# Altium schematic symbol library FPGA_Xilinx_Spartan6.SchLib: 45 symbols (part 5 of 8)
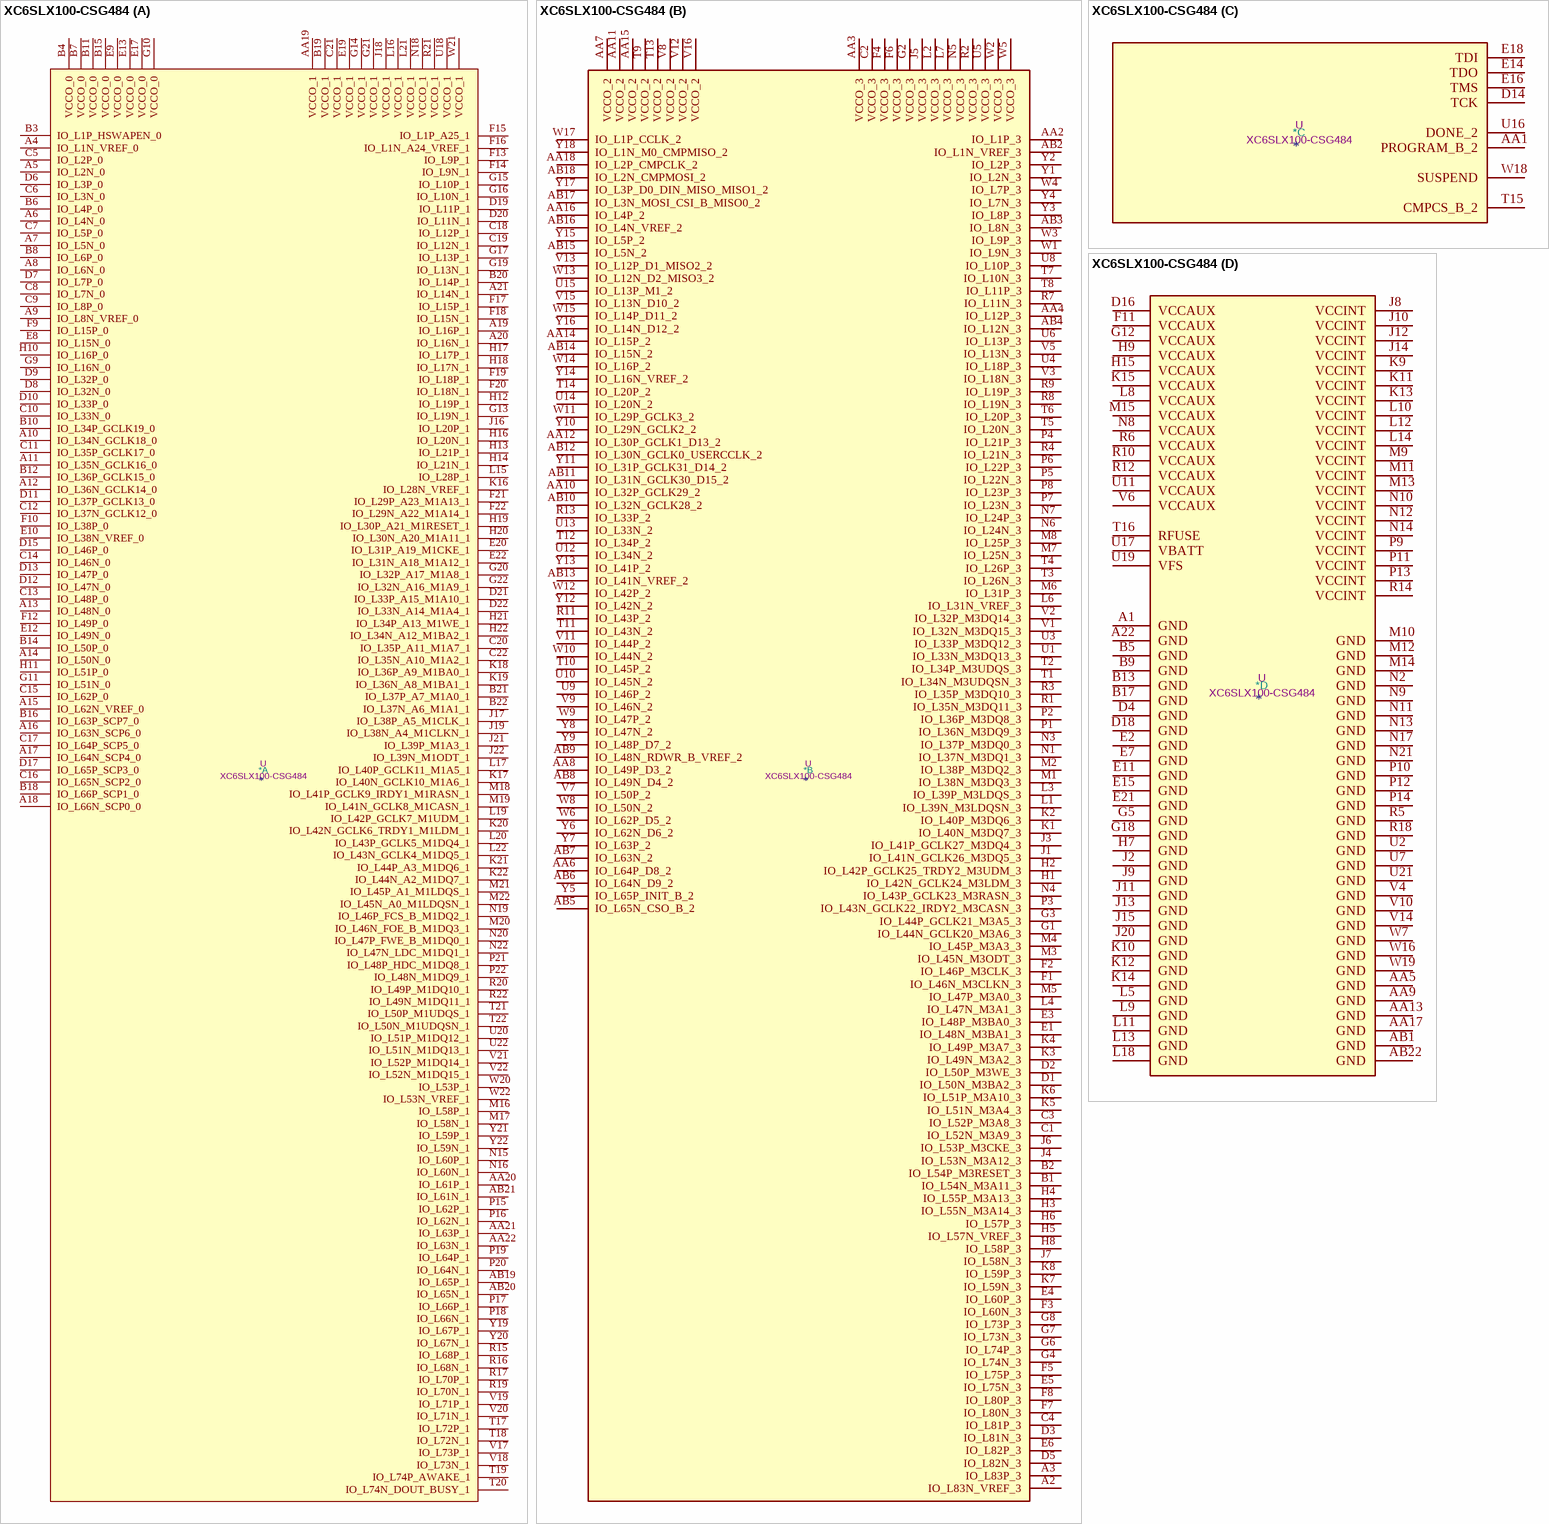
[diagram p66: symbol XC6SLX100-CSG484]

## XC6SLX100-CSG484
designator *  value XC6SLX100-CSG484  Reference: U
ki_keywords: FPGA; ki_description: Spartan 6 LX 100 XC6SLX100-CSG484
part A pins: A4 IO_L1N_VREF_0, A5 IO_L2N_0, A6 IO_L4N_0, A7 IO_L5N_0, A8 IO_L6N_0, A9 IO_L8N_VREF_0, A10 IO_L34N_GCLK18_0, A11 IO_L35N_GCLK16_0, A12 IO_L36N_GCLK14_0, A13 IO_L48N_0, A14 IO_L50N_0, A15 IO_L62N_VREF_0, A16 IO_L63N_SCP6_0, A17 IO_L64N_SCP4_0, A18 IO_L66N_SCP0_0, A19 IO_L16P_1, A20 IO_L16N_1, A21 IO_L14N_1, AA19 VCCO_1, AA20 IO_L61P_1, AA21 IO_L63P_1, AA22 IO_L63N_1, AB19 IO_L65P_1, AB20 IO_L65N_1, AB21 IO_L61N_1, B3 IO_L1P_HSWAPEN_0, B4 VCCO_0, B6 IO_L4P_0, B7 VCCO_0, B8 IO_L6P_0, B10 IO_L34P_GCLK19_0, B11 VCCO_0, B12 IO_L36P_GCLK15_0, B14 IO_L50P_0, B15 VCCO_0, B16 IO_L63P_SCP7_0, B18 IO_L66P_SCP1_0, B19 VCCO_1, B20 IO_L14P_1, B21 IO_L37P_A7_M1A0_1, B22 IO_L37N_A6_M1A1_1, C5 IO_L2P_0, C6 IO_L3N_0, C7 IO_L5P_0, C8 IO_L7N_0, C9 IO_L8P_0, C10 IO_L33N_0, C11 IO_L35P_GCLK17_0, C12 IO_L37N_GCLK12_0, C13 IO_L48P_0, C14 IO_L46N_0, C15 IO_L62P_0, C16 IO_L65N_SCP2_0, C17 IO_L64P_SCP5_0, C18 IO_L12P_1, C19 IO_L12N_1, C20 IO_L35P_A11_M1A7_1, C21 VCCO_1, C22 IO_L35N_A10_M1A2_1, D6 IO_L3P_0, D7 IO_L7P_0, D8 IO_L32N_0, D9 IO_L32P_0, D10 IO_L33P_0, D11 IO_L37P_GCLK13_0, D12 IO_L47N_0, D13 IO_L47P_0, D15 IO_L46P_0, D17 IO_L65P_SCP3_0, D19 IO_L11P_1, D20 IO_L11N_1, D21 IO_L33P_A15_M1A10_1, D22 IO_L33N_A14_M1A4_1, E8 IO_L15N_0, E9 VCCO_0, E10 IO_L38N_VREF_0, E12 IO_L49N_0, E13 VCCO_0, E17 VCCO_0, E19 VCCO_1, E20 IO_L31P_A19_M1CKE_1, E22 IO_L31N_A18_M1A12_1, F9 IO_L15P_0, F10 IO_L38P_0, F12 IO_L49P_0, F13 IO_L9P_1, F14 IO_L9N_1, F15 IO_L1P_A25_1, F16 IO_L1N_A24_VREF_1, F17 IO_L15P_1, F18 IO_L15N_1, F19 IO_L18P_1, F20 IO_L18N_1, F21 IO_L29P_A23_M1A13_1, F22 IO_L29N_A22_M1A14_1, G9 IO_L16N_0, G10 VCCO_0, G11 IO_L51N_0, G13 IO_L19N_1, G14 VCCO_1, G15 IO_L10P_1, G16 IO_L10N_1, G17 IO_L13P_1, G19 IO_L13N_1, G20 IO_L32P_A17_M1A8_1, G21 VCCO_1, G22 IO_L32N_A16_M1A9_1, H10 IO_L16P_0, H11 IO_L51P_0, H12 IO_L19P_1, H13 IO_L21P_1, H14 IO_L21N_1, H16 IO_L20N_1, H17 IO_L17P_1, H18 IO_L17N_1, H19 IO_L30P_A21_M1RESET_1, H20 IO_L30N_A20_M1A11_1, H21 IO_L34P_A13_M1WE_1, H22 IO_L34N_A12_M1BA2_1, J16 IO_L20P_1, J17 IO_L38P_A5_M1CLK_1, J18 VCCO_1, J19 IO_L38N_A4_M1CLKN_1, J21 IO_L39P_M1A3_1, J22 IO_L39N_M1ODT_1, K16 IO_L28N_VREF_1, K17 IO_L40N_GCLK10_M1A6_1, K18 IO_L36P_A9_M1BA0_1, K19 IO_L36N_A8_M1BA1_1, K20 IO_L42N_GCLK6_TRDY1_M1LDM_1, K21 IO_L44P_A3_M1DQ6_1, K22 IO_L44N_A2_M1DQ7_1, L15 IO_L28P_1, L16 VCCO_1, L17 IO_L40P_GCLK11_M1A5_1, L19 IO_L42P_GCLK7_M1UDM_1, L20 IO_L43P_GCLK5_M1DQ4_1, L21 VCCO_1, L22 IO_L43N_GCLK4_M1DQ5_1, M16 IO_L58P_1, M17 IO_L58N_1, M18 IO_L41P_GCLK9_IRDY1_M1RASN_1, M19 IO_L41N_GCLK8_M1CASN_1, M20 IO_L46N_FOE_B_M1DQ3_1, M21 IO_L45P_A1_M1LDQS_1, M22 IO_L45N_A0_M1LDQSN_1, N15 IO_L60P_1, N16 IO_L60N_1, N18 VCCO_1, N19 IO_L46P_FCS_B_M1DQ2_1, N20 IO_L47P_FWE_B_M1DQ0_1, N22 IO_L47N_LDC_M1DQ1_1, P15 IO_L62P_1, P16 IO_L62N_1, P17 IO_L66P_1, P18 IO_L66N_1, P19 IO_L64P_1, P20 IO_L64N_1, P21 IO_L48P_HDC_M1DQ8_1, P22 IO_L48N_M1DQ9_1, R15 IO_L68P_1, R16 IO_L68N_1, R17 IO_L70P_1, R19 IO_L70N_1, R20 IO_L49P_M1DQ10_1, R21 VCCO_1, R22 IO_L49N_M1DQ11_1, T17 IO_L72P_1, T18 IO_L72N_1, T19 IO_L74P_AWAKE_1, T20 IO_L74N_DOUT_BUSY_1, T21 IO_L50P_M1UDQS_1, T22 IO_L50N_M1UDQSN_1, U18 VCCO_1, U20 IO_L51P_M1DQ12_1, U22 IO_L51N_M1DQ13_1, V17 IO_L73P_1, V18 IO_L73N_1, V19 IO_L71P_1, V20 IO_L71N_1, V21 IO_L52P_M1DQ14_1, V22 IO_L52N_M1DQ15_1, W20 IO_L53P_1, W21 VCCO_1, W22 IO_L53N_VREF_1, Y19 IO_L67P_1, Y20 IO_L67N_1, Y21 IO_L59P_1, Y22 IO_L59N_1
part B pins: A2 IO_L83N_VREF_3, A3 IO_L83P_3, AA2 IO_L1P_3, AA3 VCCO_3, AA4 IO_L12P_3, AA6 IO_L64P_D8_2, AA7 VCCO_2, AA8 IO_L49P_D3_2, AA10 IO_L32P_GCLK29_2, AA11 VCCO_2, AA12 IO_L30P_GCLK1_D13_2, AA14 IO_L15P_2, AA15 VCCO_2, AA16 IO_L4P_2, AA18 IO_L2P_CMPCLK_2, AB2 IO_L1N_VREF_3, AB3 IO_L8N_3, AB4 IO_L12N_3, AB5 IO_L65N_CSO_B_2, AB6 IO_L64N_D9_2, AB7 IO_L63N_2, AB8 IO_L49N_D4_2, AB9 IO_L48N_RDWR_B_VREF_2, AB10 IO_L32N_GCLK28_2, AB11 IO_L31N_GCLK30_D15_2, AB12 IO_L30N_GCLK0_USERCCLK_2, AB13 IO_L41N_VREF_2, AB14 IO_L15N_2, AB15 IO_L5N_2, AB16 IO_L4N_VREF_2, AB17 IO_L3N_MOSI_CSI_B_MISO0_2, AB18 IO_L2N_CMPMOSI_2, B1 IO_L54N_M3A11_3, B2 IO_L54P_M3RESET_3, C1 IO_L52N_M3A9_3, C2 VCCO_3, C3 IO_L52P_M3A8_3, C4 IO_L81P_3, D1 IO_L50N_M3BA2_3, D2 IO_L50P_M3WE_3, D3 IO_L81N_3, D5 IO_L82N_3, E1 IO_L48N_M3BA1_3, E3 IO_L48P_M3BA0_3, E4 IO_L60P_3, E5 IO_L75N_3, E6 IO_L82P_3, F1 IO_L46N_M3CLKN_3, F2 IO_L46P_M3CLK_3, F3 IO_L60N_3, F4 VCCO_3, F5 IO_L75P_3, F6 VCCO_3, F7 IO_L80N_3, F8 IO_L80P_3, G1 IO_L44N_GCLK20_M3A6_3, G2 VCCO_3, G3 IO_L44P_GCLK21_M3A5_3, G4 IO_L74N_3, G6 IO_L74P_3, G7 IO_L73N_3, G8 IO_L73P_3, H1 IO_L42N_GCLK24_M3LDM_3, H2 IO_L42P_GCLK25_TRDY2_M3UDM_3, H3 IO_L55N_M3A14_3, H4 IO_L55P_M3A13_3, H5 IO_L57N_VREF_3, H6 IO_L57P_3, H8 IO_L58P_3, J1 IO_L41N_GCLK26_M3DQ5_3, J3 IO_L41P_GCLK27_M3DQ4_3, J4 IO_L53N_M3A12_3, J5 VCCO_3, J6 IO_L53P_M3CKE_3, J7 IO_L58N_3, K1 IO_L40N_M3DQ7_3, K2 IO_L40P_M3DQ6_3, K3 IO_L49N_M3A2_3, K4 IO_L49P_M3A7_3, K5 IO_L51N_M3A4_3, K6 IO_L51P_M3A10_3, K7 IO_L59N_3, K8 IO_L59P_3, L1 IO_L39N_M3LDQSN_3, L2 VCCO_3, L3 IO_L39P_M3LDQS_3, L4 IO_L47N_M3A1_3, L6 IO_L31N_VREF_3, L7 VCCO_3, M1 IO_L38N_M3DQ3_3, M2 IO_L38P_M3DQ2_3, M3 IO_L45N_M3ODT_3, M4 IO_L45P_M3A3_3, M5 IO_L47P_M3A0_3, M6 IO_L31P_3, M7 IO_L25N_3, M8 IO_L25P_3, N1 IO_L37N_M3DQ1_3, N3 IO_L37P_M3DQ0_3, N4 IO_L43P_GCLK23_M3RASN_3, N5 VCCO_3, N6 IO_L24N_3, N7 IO_L24P_3, P1 IO_L36N_M3DQ9_3, P2 IO_L36P_M3DQ8_3, P3 IO_L43N_GCLK22_IRDY2_M3CASN_3, P4 IO_L21P_3, P5 IO_L22N_3, P6 IO_L22P_3, P7 IO_L23N_3, P8 IO_L23P_3, R1 IO_L35N_M3DQ11_3, R2 VCCO_3, R3 IO_L35P_M3DQ10_3, R4 IO_L21N_3, R7 IO_L11N_3, R8 IO_L19N_3, R9 IO_L19P_3, R11 IO_L43P_2, R13 IO_L33P_2, T1 IO_L34N_M3UDQSN_3, T2 IO_L34P_M3UDQS_3, T3 IO_L26N_3, T4 IO_L26P_3, T5 IO_L20N_3, T6 IO_L20P_3, T7 IO_L10N_3, T8 IO_L11P_3, T9 VCCO_2, T10 IO_L45P_2, T11 IO_L43N_2, T12 IO_L34P_2, T13 VCCO_2, T14 IO_L20P_2, U1 IO_L33N_M3DQ13_3, U3 IO_L33P_M3DQ12_3, U4 IO_L18P_3, U5 VCCO_3, U6 IO_L13P_3, U8 IO_L10P_3, U9 IO_L46P_2, U10 IO_L45N_2, U12 IO_L34N_2, U13 IO_L33N_2, U14 IO_L20N_2, U15 IO_L13P_M1_2, V1 IO_L32N_M3DQ15_3, V2 IO_L32P_M3DQ14_3, V3 IO_L18N_3, V5 IO_L13N_3, V7 IO_L50P_2, V8 VCCO_2, V9 IO_L46N_2, V11 IO_L44P_2, V12 VCCO_2, V13 IO_L12P_D1_MISO2_2, V15 IO_L13N_D10_2, V16 VCCO_2, W1 IO_L9N_3, W2 VCCO_3, W3 IO_L9P_3, W4 IO_L7P_3, W5 VCCO_3, W6 IO_L62P_D5_2, W8 IO_L50N_2, W9 IO_L47P_2, W10 IO_L44N_2, W11 IO_L29P_GCLK3_2, W12 IO_L42P_2, W13 IO_L12N_D2_MISO3_2, W14 IO_L16P_2, W15 IO_L14P_D11_2, W17 IO_L1P_CCLK_2, Y1 IO_L2N_3, Y2 IO_L2P_3, Y3 IO_L8P_3, Y4 IO_L7N_3, Y5 IO_L65P_INIT_B_2, Y6 IO_L62N_D6_2, Y7 IO_L63P_2, Y8 IO_L47N_2, Y9 IO_L48P_D7_2, Y10 IO_L29N_GCLK2_2, Y11 IO_L31P_GCLK31_D14_2, Y12 IO_L42N_2, Y13 IO_L41P_2, Y14 IO_L16N_VREF_2, Y15 IO_L5P_2, Y16 IO_L14N_D12_2, Y17 IO_L3P_D0_DIN_MISO_MISO1_2, Y18 IO_L1N_M0_CMPMISO_2
part C pins: AA1 PROGRAM_B_2, D14 TCK, E14 TDO, E16 TMS, E18 TDI, T15 CMPCS_B_2, U16 DONE_2, W18 SUSPEND
part D pins: A1 GND, A22 GND, AA5 GND, AA9 GND, AA13 GND, AA17 GND, AB1 GND, AB22 GND, B5 GND, B9 GND, B13 GND, B17 GND, D4 GND, D16 VCCAUX, D18 GND, E2 GND, E7 GND, E11 GND, E15 GND, E21 GND, F11 VCCAUX, G5 GND, G12 VCCAUX, G18 GND, H7 GND, H9 VCCAUX, H15 VCCAUX, J2 GND, J8 VCCINT, J9 GND, J10 VCCINT, J11 GND, J12 VCCINT, J13 GND, J14 VCCINT, J15 GND, J20 GND, K9 VCCINT, K10 GND, K11 VCCINT, K12 GND, K13 VCCINT, K14 GND, K15 VCCAUX, L5 GND, L8 VCCAUX, L9 GND, L10 VCCINT, L11 GND, L12 VCCINT, L13 GND, L14 VCCINT, L18 GND, M9 VCCINT, M10 GND, M11 VCCINT, M12 GND, M13 VCCINT, M14 GND, M15 VCCAUX, N2 GND, N8 VCCAUX, N9 GND, N10 VCCINT, N11 GND, N12 VCCINT, N13 GND, N14 VCCINT, N17 GND, N21 GND, P9 VCCINT, P10 GND, P11 VCCINT, P12 GND, P13 VCCINT, P14 GND, R5 GND, R6 VCCAUX, R10 VCCAUX, R12 VCCAUX, R14 VCCINT, R18 GND, T16 RFUSE, U2 GND, U7 GND, U11 VCCAUX, U17 VBATT, U19 VFS, U21 GND, V4 GND, V6 VCCAUX, V10 GND, V14 GND, W7 GND, W16 GND, W19 GND

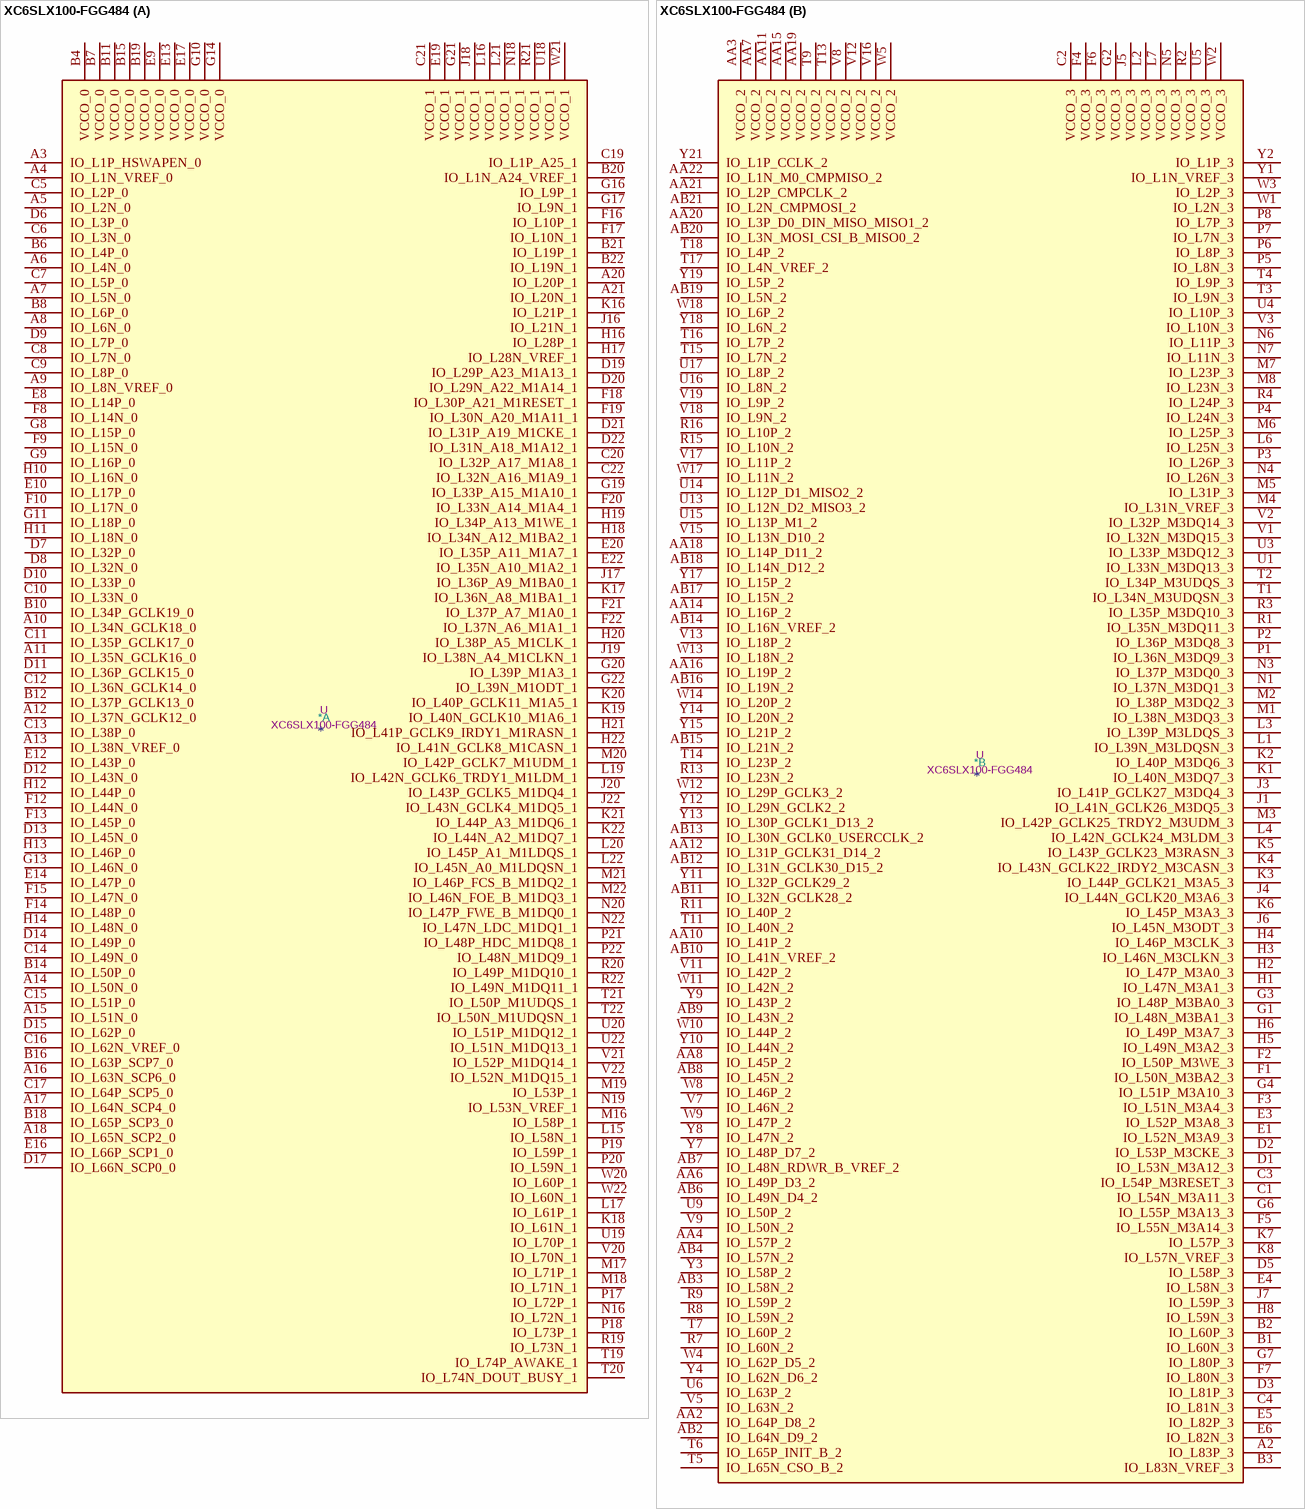
[diagram p38: symbol XC6SLX100-FGG484]

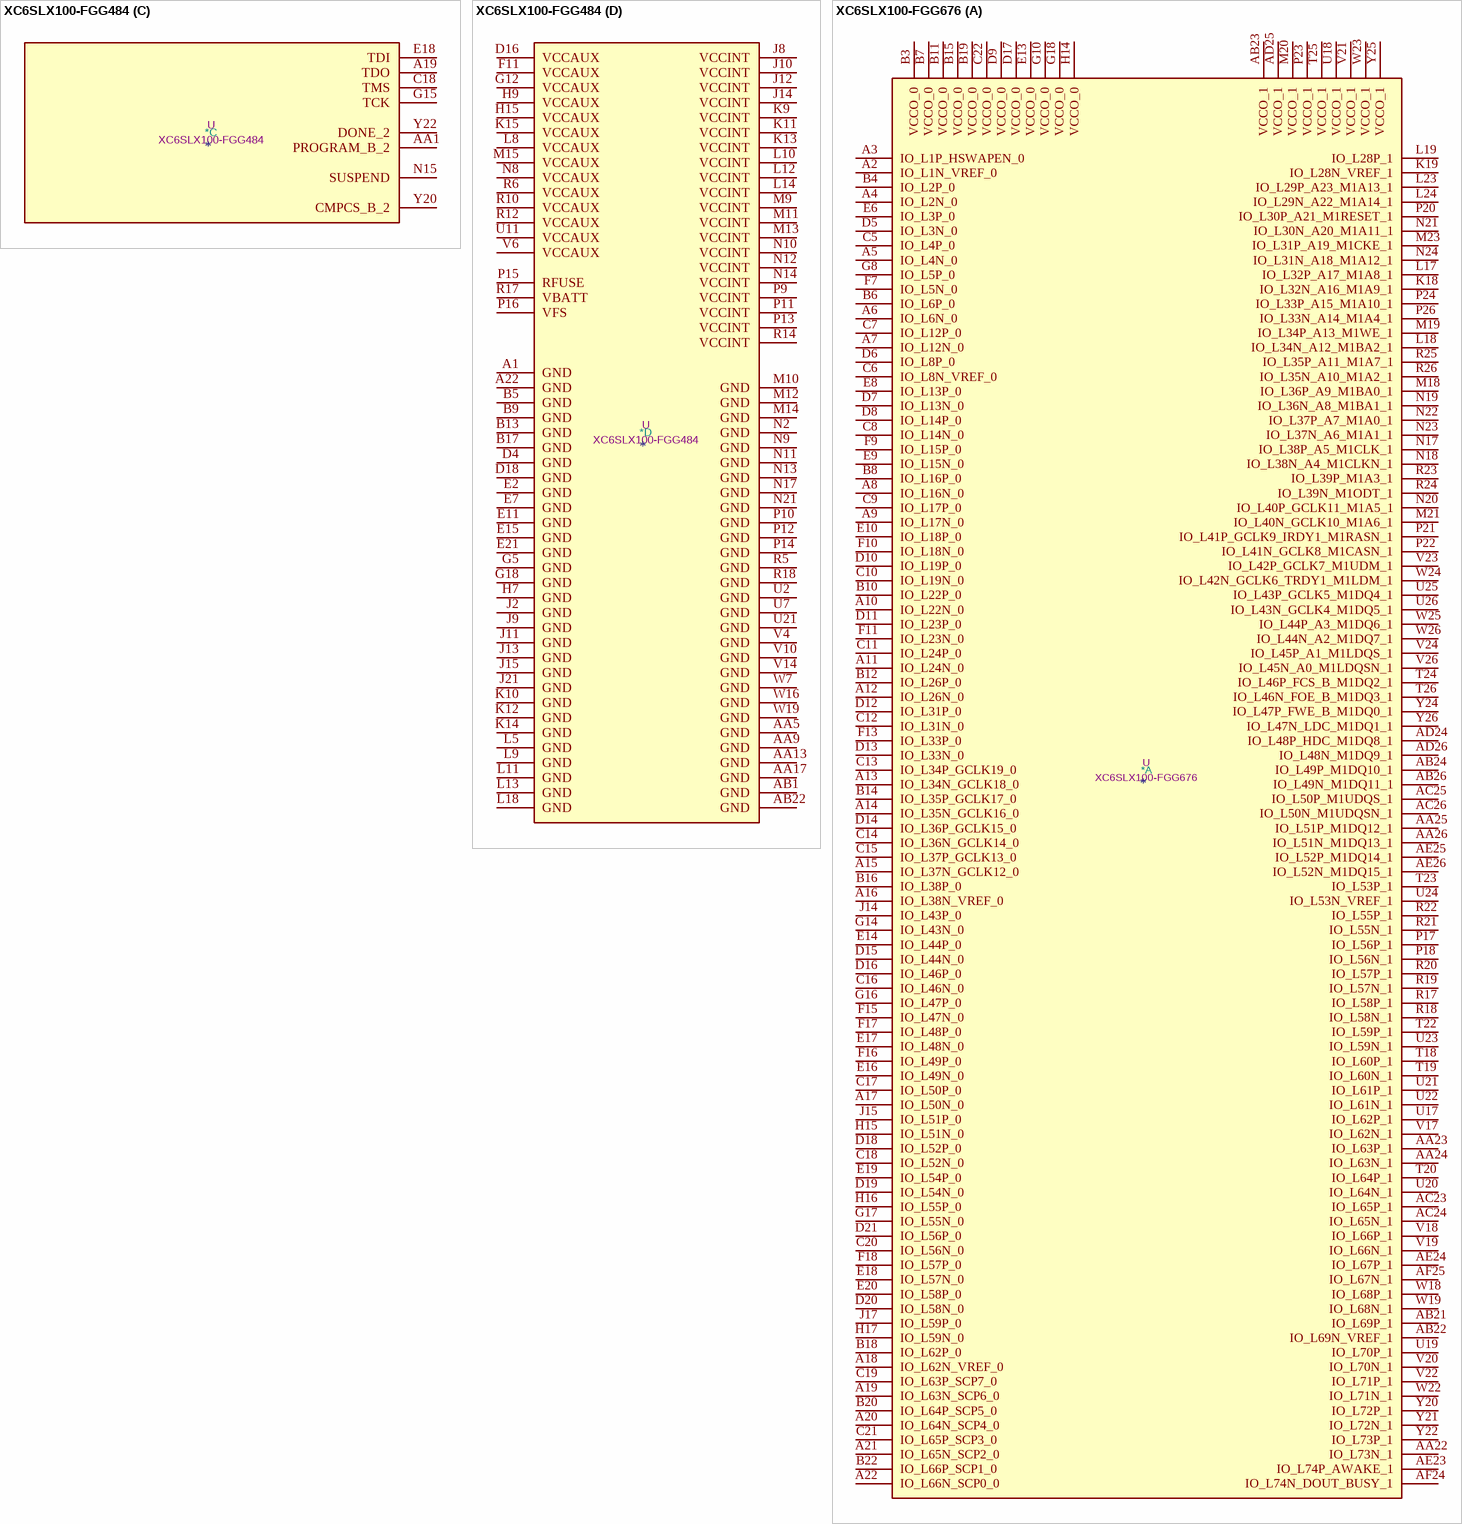
[diagram p39: symbols XC6SLX100-FGG484 to XC6SLX100-FGG676]

## XC6SLX100-FGG484
designator *  value XC6SLX100-FGG484  Reference: U
ki_keywords: FPGA; ki_description: Spartan 6 LX 100 XC6SLX100-FGG484
part A pins: A3 IO_L1P_HSWAPEN_0, A4 IO_L1N_VREF_0, A5 IO_L2N_0, A6 IO_L4N_0, A7 IO_L5N_0, A8 IO_L6N_0, A9 IO_L8N_VREF_0, A10 IO_L34N_GCLK18_0, A11 IO_L35N_GCLK16_0, A12 IO_L37N_GCLK12_0, A13 IO_L38N_VREF_0, A14 IO_L50N_0, A15 IO_L51N_0, A16 IO_L63N_SCP6_0, A17 IO_L64N_SCP4_0, A18 IO_L65N_SCP2_0, A20 IO_L20P_1, A21 IO_L20N_1, B4 VCCO_0, B6 IO_L4P_0, B7 VCCO_0, B8 IO_L6P_0, B10 IO_L34P_GCLK19_0, B11 VCCO_0, B12 IO_L37P_GCLK13_0, B14 IO_L50P_0, B15 VCCO_0, B16 IO_L63P_SCP7_0, B18 IO_L65P_SCP3_0, B19 VCCO_0, B20 IO_L1N_A24_VREF_1, B21 IO_L19P_1, B22 IO_L19N_1, C5 IO_L2P_0, C6 IO_L3N_0, C7 IO_L5P_0, C8 IO_L7N_0, C9 IO_L8P_0, C10 IO_L33N_0, C11 IO_L35P_GCLK17_0, C12 IO_L36N_GCLK14_0, C13 IO_L38P_0, C14 IO_L49N_0, C15 IO_L51P_0, C16 IO_L62N_VREF_0, C17 IO_L64P_SCP5_0, C19 IO_L1P_A25_1, C20 IO_L32P_A17_M1A8_1, C21 VCCO_1, C22 IO_L32N_A16_M1A9_1, D6 IO_L3P_0, D7 IO_L32P_0, D8 IO_L32N_0, D9 IO_L7P_0, D10 IO_L33P_0, D11 IO_L36P_GCLK15_0, D12 IO_L43N_0, D13 IO_L45N_0, D14 IO_L49P_0, D15 IO_L62P_0, D17 IO_L66N_SCP0_0, D19 IO_L29P_A23_M1A13_1, D20 IO_L29N_A22_M1A14_1, D21 IO_L31P_A19_M1CKE_1, D22 IO_L31N_A18_M1A12_1, E8 IO_L14P_0, E9 VCCO_0, E10 IO_L17P_0, E12 IO_L43P_0, E13 VCCO_0, E14 IO_L47P_0, E16 IO_L66P_SCP1_0, E17 VCCO_0, E19 VCCO_1, E20 IO_L35P_A11_M1A7_1, E22 IO_L35N_A10_M1A2_1, F8 IO_L14N_0, F9 IO_L15N_0, F10 IO_L17N_0, F12 IO_L44N_0, F13 IO_L45P_0, F14 IO_L48P_0, F15 IO_L47N_0, F16 IO_L10P_1, F17 IO_L10N_1, F18 IO_L30P_A21_M1RESET_1, F19 IO_L30N_A20_M1A11_1, F20 IO_L33N_A14_M1A4_1, F21 IO_L37P_A7_M1A0_1, F22 IO_L37N_A6_M1A1_1, G8 IO_L15P_0, G9 IO_L16P_0, G10 VCCO_0, G11 IO_L18P_0, G13 IO_L46N_0, G14 VCCO_0, G16 IO_L9P_1, G17 IO_L9N_1, G19 IO_L33P_A15_M1A10_1, G20 IO_L39P_M1A3_1, G21 VCCO_1, G22 IO_L39N_M1ODT_1, H10 IO_L16N_0, H11 IO_L18N_0, H12 IO_L44P_0, H13 IO_L46P_0, H14 IO_L48N_0, H16 IO_L28P_1, H17 IO_L28N_VREF_1, H18 IO_L34N_A12_M1BA2_1, H19 IO_L34P_A13_M1WE_1, H20 IO_L38P_A5_M1CLK_1, H21 IO_L41P_GCLK9_IRDY1_M1RASN_1, H22 IO_L41N_GCLK8_M1CASN_1, J16 IO_L21N_1, J17 IO_L36P_A9_M1BA0_1, J18 VCCO_1, J19 IO_L38N_A4_M1CLKN_1, J20 IO_L43P_GCLK5_M1DQ4_1, J22 IO_L43N_GCLK4_M1DQ5_1, K16 IO_L21P_1, K17 IO_L36N_A8_M1BA1_1, K18 IO_L61N_1, K19 IO_L40N_GCLK10_M1A6_1, K20 IO_L40P_GCLK11_M1A5_1, K21 IO_L44P_A3_M1DQ6_1, K22 IO_L44N_A2_M1DQ7_1, L15 IO_L58N_1, L16 VCCO_1, L17 IO_L61P_1, L19 IO_L42N_GCLK6_TRDY1_M1LDM_1, L20 IO_L45P_A1_M1LDQS_1, L21 VCCO_1, L22 IO_L45N_A0_M1LDQSN_1, M16 IO_L58P_1, M17 IO_L71P_1, M18 IO_L71N_1, M19 IO_L53P_1, M20 IO_L42P_GCLK7_M1UDM_1, M21 IO_L46P_FCS_B_M1DQ2_1, M22 IO_L46N_FOE_B_M1DQ3_1, N16 IO_L72N_1, N18 VCCO_1, N19 IO_L53N_VREF_1, N20 IO_L47P_FWE_B_M1DQ0_1, N22 IO_L47N_LDC_M1DQ1_1, P17 IO_L72P_1, P18 IO_L73P_1, P19 IO_L59P_1, P20 IO_L59N_1, P21 IO_L48P_HDC_M1DQ8_1, P22 IO_L48N_M1DQ9_1, R19 IO_L73N_1, R20 IO_L49P_M1DQ10_1, R21 VCCO_1, R22 IO_L49N_M1DQ11_1, T19 IO_L74P_AWAKE_1, T20 IO_L74N_DOUT_BUSY_1, T21 IO_L50P_M1UDQS_1, T22 IO_L50N_M1UDQSN_1, U18 VCCO_1, U19 IO_L70P_1, U20 IO_L51P_M1DQ12_1, U22 IO_L51N_M1DQ13_1, V20 IO_L70N_1, V21 IO_L52P_M1DQ14_1, V22 IO_L52N_M1DQ15_1, W20 IO_L60P_1, W21 VCCO_1, W22 IO_L60N_1
part B pins: A2 IO_L83P_3, AA2 IO_L64P_D8_2, AA3 VCCO_2, AA4 IO_L57P_2, AA6 IO_L49P_D3_2, AA7 VCCO_2, AA8 IO_L45P_2, AA10 IO_L41P_2, AA11 VCCO_2, AA12 IO_L31P_GCLK31_D14_2, AA14 IO_L16P_2, AA15 VCCO_2, AA16 IO_L19P_2, AA18 IO_L14P_D11_2, AA19 VCCO_2, AA20 IO_L3P_D0_DIN_MISO_MISO1_2, AA21 IO_L2P_CMPCLK_2, AA22 IO_L1N_M0_CMPMISO_2, AB2 IO_L64N_D9_2, AB3 IO_L58N_2, AB4 IO_L57N_2, AB6 IO_L49N_D4_2, AB7 IO_L48N_RDWR_B_VREF_2, AB8 IO_L45N_2, AB9 IO_L43N_2, AB10 IO_L41N_VREF_2, AB11 IO_L32N_GCLK28_2, AB12 IO_L31N_GCLK30_D15_2, AB13 IO_L30N_GCLK0_USERCCLK_2, AB14 IO_L16N_VREF_2, AB15 IO_L21N_2, AB16 IO_L19N_2, AB17 IO_L15N_2, AB18 IO_L14N_D12_2, AB19 IO_L5N_2, AB20 IO_L3N_MOSI_CSI_B_MISO0_2, AB21 IO_L2N_CMPMOSI_2, B1 IO_L60N_3, B2 IO_L60P_3, B3 IO_L83N_VREF_3, C1 IO_L54N_M3A11_3, C2 VCCO_3, C3 IO_L54P_M3RESET_3, C4 IO_L81N_3, D1 IO_L53N_M3A12_3, D2 IO_L53P_M3CKE_3, D3 IO_L81P_3, D5 IO_L58P_3, E1 IO_L52N_M3A9_3, E3 IO_L52P_M3A8_3, E4 IO_L58N_3, E5 IO_L82P_3, E6 IO_L82N_3, F1 IO_L50N_M3BA2_3, F2 IO_L50P_M3WE_3, F3 IO_L51N_M3A4_3, F4 VCCO_3, F5 IO_L55N_M3A14_3, F6 VCCO_3, F7 IO_L80N_3, G1 IO_L48N_M3BA1_3, G2 VCCO_3, G3 IO_L48P_M3BA0_3, G4 IO_L51P_M3A10_3, G6 IO_L55P_M3A13_3, G7 IO_L80P_3, H1 IO_L47N_M3A1_3, H2 IO_L47P_M3A0_3, H3 IO_L46N_M3CLKN_3, H4 IO_L46P_M3CLK_3, H5 IO_L49N_M3A2_3, H6 IO_L49P_M3A7_3, H8 IO_L59N_3, J1 IO_L41N_GCLK26_M3DQ5_3, J3 IO_L41P_GCLK27_M3DQ4_3, J4 IO_L44N_GCLK20_M3A6_3, J5 VCCO_3, J6 IO_L45N_M3ODT_3, J7 IO_L59P_3, K1 IO_L40N_M3DQ7_3, K2 IO_L40P_M3DQ6_3, K3 IO_L44P_GCLK21_M3A5_3, K4 IO_L43N_GCLK22_IRDY2_M3CASN_3, K5 IO_L43P_GCLK23_M3RASN_3, K6 IO_L45P_M3A3_3, K7 IO_L57P_3, K8 IO_L57N_VREF_3, L1 IO_L39N_M3LDQSN_3, L2 VCCO_3, L3 IO_L39P_M3LDQS_3, L4 IO_L42N_GCLK24_M3LDM_3, L6 IO_L25N_3, L7 VCCO_3, M1 IO_L38N_M3DQ3_3, M2 IO_L38P_M3DQ2_3, M3 IO_L42P_GCLK25_TRDY2_M3UDM_3, M4 IO_L31N_VREF_3, M5 IO_L31P_3, M6 IO_L25P_3, M7 IO_L23P_3, M8 IO_L23N_3, N1 IO_L37N_M3DQ1_3, N3 IO_L37P_M3DQ0_3, N4 IO_L26N_3, N5 VCCO_3, N6 IO_L11P_3, N7 IO_L11N_3, P1 IO_L36N_M3DQ9_3, P2 IO_L36P_M3DQ8_3, P3 IO_L26P_3, P4 IO_L24N_3, P5 IO_L8N_3, P6 IO_L8P_3, P7 IO_L7N_3, P8 IO_L7P_3, R1 IO_L35N_M3DQ11_3, R2 VCCO_3, R3 IO_L35P_M3DQ10_3, R4 IO_L24P_3, R7 IO_L60N_2, R8 IO_L59N_2, R9 IO_L59P_2, R11 IO_L40P_2, R13 IO_L23N_2, R15 IO_L10N_2, R16 IO_L10P_2, T1 IO_L34N_M3UDQSN_3, T2 IO_L34P_M3UDQS_3, T3 IO_L9N_3, T4 IO_L9P_3, T5 IO_L65N_CSO_B_2, T6 IO_L65P_INIT_B_2, T7 IO_L60P_2, T9 VCCO_2, T11 IO_L40N_2, T13 VCCO_2, T14 IO_L23P_2, T15 IO_L7N_2, T16 IO_L7P_2, T17 IO_L4N_VREF_2, T18 IO_L4P_2, U1 IO_L33N_M3DQ13_3, U3 IO_L33P_M3DQ12_3, U4 IO_L10P_3, U5 VCCO_3, U6 IO_L63P_2, U9 IO_L50P_2, U13 IO_L12N_D2_MISO3_2, U14 IO_L12P_D1_MISO2_2, U15 IO_L13P_M1_2, U16 IO_L8N_2, U17 IO_L8P_2, V1 IO_L32N_M3DQ15_3, V2 IO_L32P_M3DQ14_3, V3 IO_L10N_3, V5 IO_L63N_2, V7 IO_L46N_2, V8 VCCO_2, V9 IO_L50N_2, V11 IO_L42P_2, V12 VCCO_2, V13 IO_L18P_2, V15 IO_L13N_D10_2, V16 VCCO_2, V17 IO_L11P_2, V18 IO_L9N_2, V19 IO_L9P_2, W1 IO_L2N_3, W2 VCCO_3, W3 IO_L2P_3, W4 IO_L62P_D5_2, W5 VCCO_2, W8 IO_L46P_2, W9 IO_L47P_2, W10 IO_L44P_2, W11 IO_L42N_2, W12 IO_L29P_GCLK3_2, W13 IO_L18N_2, W14 IO_L20P_2, W17 IO_L11N_2, W18 IO_L6P_2, Y1 IO_L1N_VREF_3, Y2 IO_L1P_3, Y3 IO_L58P_2, Y4 IO_L62N_D6_2, Y7 IO_L48P_D7_2, Y8 IO_L47N_2, Y9 IO_L43P_2, Y10 IO_L44N_2, Y11 IO_L32P_GCLK29_2, Y12 IO_L29N_GCLK2_2, Y13 IO_L30P_GCLK1_D13_2, Y14 IO_L20N_2, Y15 IO_L21P_2, Y17 IO_L15P_2, Y18 IO_L6N_2, Y19 IO_L5P_2, Y21 IO_L1P_CCLK_2
part C pins: A19 TDO, AA1 PROGRAM_B_2, C18 TMS, E18 TDI, G15 TCK, N15 SUSPEND, Y20 CMPCS_B_2, Y22 DONE_2
part D pins: A1 GND, A22 GND, AA5 GND, AA9 GND, AA13 GND, AA17 GND, AB1 GND, AB22 GND, B5 GND, B9 GND, B13 GND, B17 GND, D4 GND, D16 VCCAUX, D18 GND, E2 GND, E7 GND, E11 GND, E15 GND, E21 GND, F11 VCCAUX, G5 GND, G12 VCCAUX, G18 GND, H7 GND, H9 VCCAUX, H15 VCCAUX, J2 GND, J8 VCCINT, J9 GND, J10 VCCINT, J11 GND, J12 VCCINT, J13 GND, J14 VCCINT, J15 GND, J21 GND, K9 VCCINT, K10 GND, K11 VCCINT, K12 GND, K13 VCCINT, K14 GND, K15 VCCAUX, L5 GND, L8 VCCAUX, L9 GND, L10 VCCINT, L11 GND, L12 VCCINT, L13 GND, L14 VCCINT, L18 GND, M9 VCCINT, M10 GND, M11 VCCINT, M12 GND, M13 VCCINT, M14 GND, M15 VCCAUX, N2 GND, N8 VCCAUX, N9 GND, N10 VCCINT, N11 GND, N12 VCCINT, N13 GND, N14 VCCINT, N17 GND, N21 GND, P9 VCCINT, P10 GND, P11 VCCINT, P12 GND, P13 VCCINT, P14 GND, P15 RFUSE, P16 VFS, R5 GND, R6 VCCAUX, R10 VCCAUX, R12 VCCAUX, R14 VCCINT, R17 VBATT, R18 GND, U2 GND, U7 GND, U11 VCCAUX, U21 GND, V4 GND, V6 VCCAUX, V10 GND, V14 GND, W7 GND, W16 GND, W19 GND

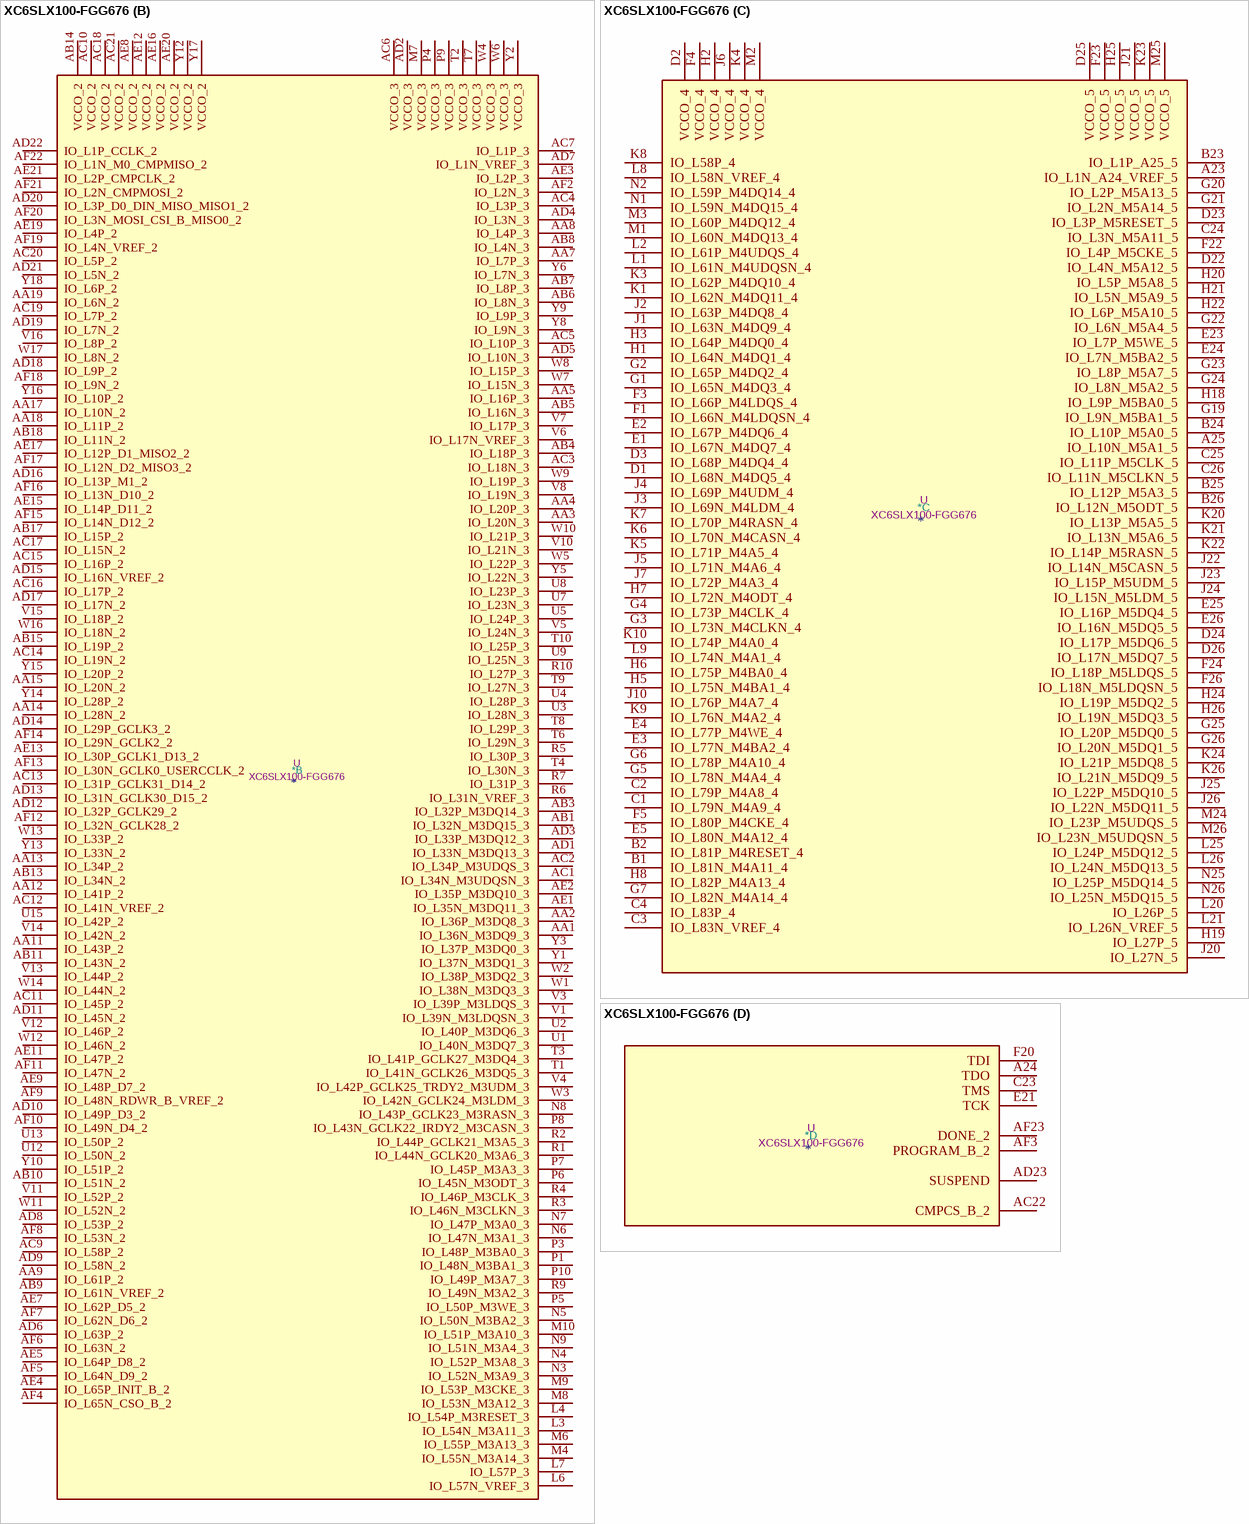
[diagram p40: symbol XC6SLX100-FGG676]

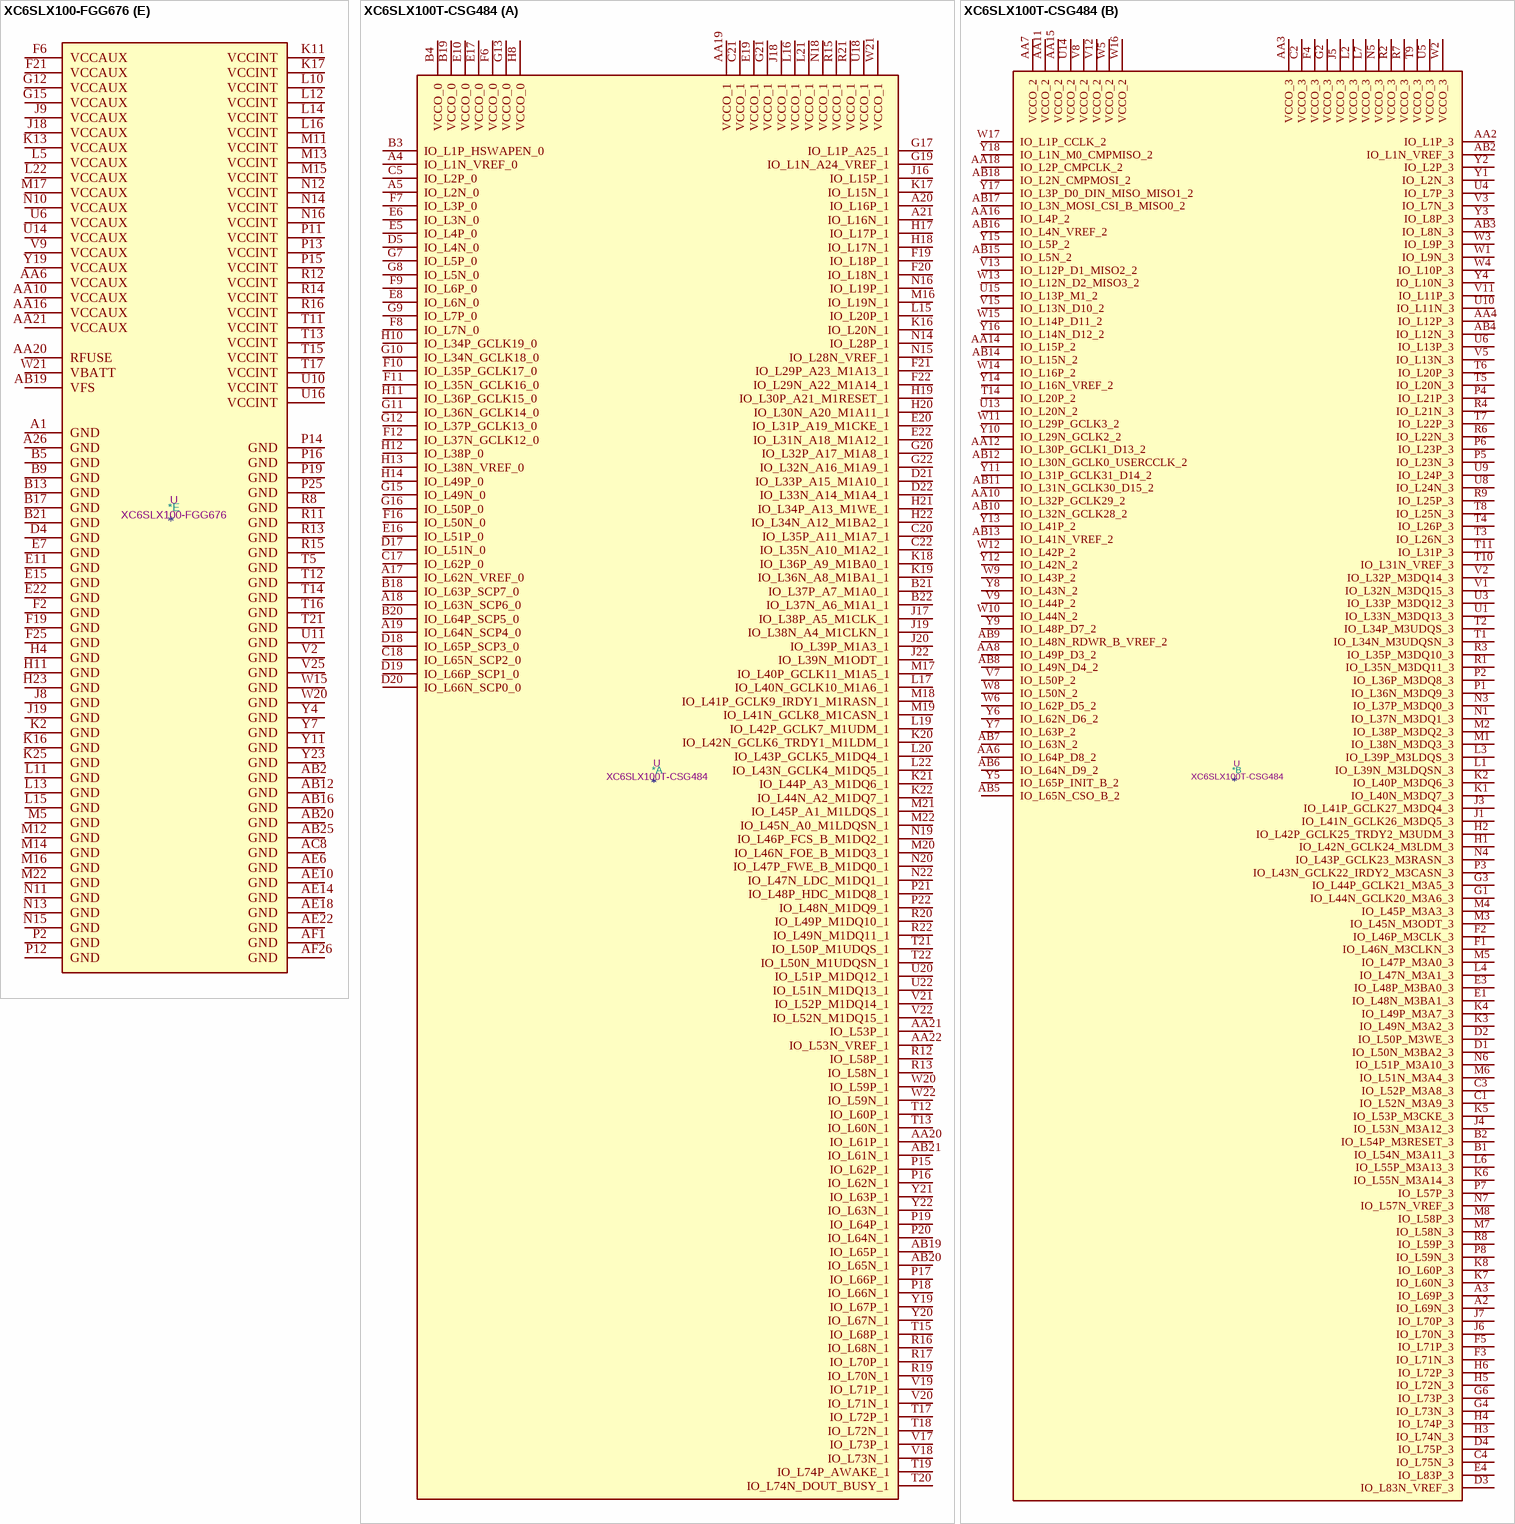
[diagram p41: symbols XC6SLX100-FGG676 to XC6SLX100T-CSG484]

## XC6SLX100-FGG676
designator *  value XC6SLX100-FGG676  Reference: U
ki_keywords: FPGA; ki_description: Spartan 6 LX 100 XC6SLX100-FGG676
part A pins: A2 IO_L1N_VREF_0, A3 IO_L1P_HSWAPEN_0, A4 IO_L2N_0, A5 IO_L4N_0, A6 IO_L6N_0, A7 IO_L12N_0, A8 IO_L16N_0, A9 IO_L17N_0, A10 IO_L22N_0, A11 IO_L24N_0, A12 IO_L26N_0, A13 IO_L34N_GCLK18_0, A14 IO_L35N_GCLK16_0, A15 IO_L37N_GCLK12_0, A16 IO_L38N_VREF_0, A17 IO_L50N_0, A18 IO_L62N_VREF_0, A19 IO_L63N_SCP6_0, A20 IO_L64N_SCP4_0, A21 IO_L65N_SCP2_0, A22 IO_L66N_SCP0_0, AA22 IO_L73N_1, AA23 IO_L63P_1, AA24 IO_L63N_1, AA25 IO_L51P_M1DQ12_1, AA26 IO_L51N_M1DQ13_1, AB21 IO_L69P_1, AB22 IO_L69N_VREF_1, AB23 VCCO_1, AB24 IO_L49P_M1DQ10_1, AB26 IO_L49N_M1DQ11_1, AC23 IO_L65P_1, AC24 IO_L65N_1, AC25 IO_L50P_M1UDQS_1, AC26 IO_L50N_M1UDQSN_1, AD24 IO_L48P_HDC_M1DQ8_1, AD25 VCCO_1, AD26 IO_L48N_M1DQ9_1, AE23 IO_L74P_AWAKE_1, AE24 IO_L67P_1, AE25 IO_L52P_M1DQ14_1, AE26 IO_L52N_M1DQ15_1, AF24 IO_L74N_DOUT_BUSY_1, AF25 IO_L67N_1, B3 VCCO_0, B4 IO_L2P_0, B6 IO_L6P_0, B7 VCCO_0, B8 IO_L16P_0, B10 IO_L22P_0, B11 VCCO_0, B12 IO_L26P_0, B14 IO_L35P_GCLK17_0, B15 VCCO_0, B16 IO_L38P_0, B18 IO_L62P_0, B19 VCCO_0, B20 IO_L64P_SCP5_0, B22 IO_L66P_SCP1_0, C5 IO_L4P_0, C6 IO_L8N_VREF_0, C7 IO_L12P_0, C8 IO_L14N_0, C9 IO_L17P_0, C10 IO_L19N_0, C11 IO_L24P_0, C12 IO_L31N_0, C13 IO_L34P_GCLK19_0, C14 IO_L36N_GCLK14_0, C15 IO_L37P_GCLK13_0, C16 IO_L46N_0, C17 IO_L50P_0, C18 IO_L52N_0, C19 IO_L63P_SCP7_0, C20 IO_L56N_0, C21 IO_L65P_SCP3_0, C22 VCCO_0, D5 IO_L3N_0, D6 IO_L8P_0, D7 IO_L13N_0, D8 IO_L14P_0, D9 VCCO_0, D10 IO_L19P_0, D11 IO_L23P_0, D12 IO_L31P_0, D13 IO_L33N_0, D14 IO_L36P_GCLK15_0, D15 IO_L44N_0, D16 IO_L46P_0, D17 VCCO_0, D18 IO_L52P_0, D19 IO_L54N_0, D20 IO_L58N_0, D21 IO_L56P_0, E6 IO_L3P_0, E8 IO_L13P_0, E9 IO_L15N_0, E10 IO_L18P_0, E13 VCCO_0, E14 IO_L44P_0, E16 IO_L49N_0, E17 IO_L48N_0, E18 IO_L57N_0, E19 IO_L54P_0, E20 IO_L58P_0, F7 IO_L5N_0, F9 IO_L15P_0, F10 IO_L18N_0, F11 IO_L23N_0, F13 IO_L33P_0, F15 IO_L47N_0, F16 IO_L49P_0, F17 IO_L48P_0, F18 IO_L57P_0, G8 IO_L5P_0, G10 VCCO_0, G14 IO_L43N_0, G16 IO_L47P_0, G17 IO_L55N_0, G18 VCCO_0, H14 VCCO_0, H15 IO_L51N_0, H16 IO_L55P_0, H17 IO_L59N_0, J14 IO_L43P_0, J15 IO_L51P_0, J17 IO_L59P_0, K18 IO_L32N_A16_M1A9_1, K19 IO_L28N_VREF_1, L17 IO_L32P_A17_M1A8_1, L18 IO_L34N_A12_M1BA2_1, L19 IO_L28P_1, L23 IO_L29P_A23_M1A13_1, L24 IO_L29N_A22_M1A14_1, M18 IO_L36P_A9_M1BA0_1, M19 IO_L34P_A13_M1WE_1, M20 VCCO_1, M21 IO_L40N_GCLK10_M1A6_1, M23 IO_L31P_A19_M1CKE_1, N17 IO_L38P_A5_M1CLK_1, N18 IO_L38N_A4_M1CLKN_1, N19 IO_L36N_A8_M1BA1_1, N20 IO_L40P_GCLK11_M1A5_1, N21 IO_L30N_A20_M1A11_1, N22 IO_L37P_A7_M1A0_1, N23 IO_L37N_A6_M1A1_1, N24 IO_L31N_A18_M1A12_1, P17 IO_L56P_1, P18 IO_L56N_1, P20 IO_L30P_A21_M1RESET_1, P21 IO_L41P_GCLK9_IRDY1_M1RASN_1, P22 IO_L41N_GCLK8_M1CASN_1, P23 VCCO_1, P24 IO_L33P_A15_M1A10_1, P26 IO_L33N_A14_M1A4_1, R17 IO_L58P_1, R18 IO_L58N_1, R19 IO_L57N_1, R20 IO_L57P_1, R21 IO_L55N_1, R22 IO_L55P_1, R23 IO_L39P_M1A3_1, R24 IO_L39N_M1ODT_1, R25 IO_L35P_A11_M1A7_1, R26 IO_L35N_A10_M1A2_1, T18 IO_L60P_1, T19 IO_L60N_1, T20 IO_L64P_1, T22 IO_L59P_1, T23 IO_L53P_1, T24 IO_L46P_FCS_B_M1DQ2_1, T25 VCCO_1, T26 IO_L46N_FOE_B_M1DQ3_1, U17 IO_L62P_1, U18 VCCO_1, U19 IO_L70P_1, U20 IO_L64N_1, U21 IO_L61P_1, U22 IO_L61N_1, U23 IO_L59N_1, U24 IO_L53N_VREF_1, U25 IO_L43P_GCLK5_M1DQ4_1, U26 IO_L43N_GCLK4_M1DQ5_1, V17 IO_L62N_1, V18 IO_L66P_1, V19 IO_L66N_1, V20 IO_L70N_1, V21 VCCO_1, V22 IO_L71P_1, V23 IO_L42P_GCLK7_M1UDM_1, V24 IO_L45P_A1_M1LDQS_1, V26 IO_L45N_A0_M1LDQSN_1, W18 IO_L68P_1, W19 IO_L68N_1, W22 IO_L71N_1, W23 VCCO_1, W24 IO_L42N_GCLK6_TRDY1_M1LDM_1, W25 IO_L44P_A3_M1DQ6_1, W26 IO_L44N_A2_M1DQ7_1, Y20 IO_L72P_1, Y21 IO_L72N_1, Y22 IO_L73P_1, Y24 IO_L47P_FWE_B_M1DQ0_1, Y25 VCCO_1, Y26 IO_L47N_LDC_M1DQ1_1
part B pins: AA1 IO_L36N_M3DQ9_3, AA2 IO_L36P_M3DQ8_3, AA3 IO_L20N_3, AA4 IO_L20P_3, AA5 IO_L16P_3, AA7 IO_L7P_3, AA8 IO_L4P_3, AA9 IO_L61P_2, AA11 IO_L43P_2, AA12 IO_L41P_2, AA13 IO_L34P_2, AA14 IO_L28N_2, AA15 IO_L20N_2, AA17 IO_L10N_2, AA18 IO_L11P_2, AA19 IO_L6N_2, AB1 IO_L32N_M3DQ15_3, AB3 IO_L32P_M3DQ14_3, AB4 IO_L18P_3, AB5 IO_L16N_3, AB6 IO_L8N_3, AB7 IO_L8P_3, AB8 IO_L4N_3, AB9 IO_L61N_VREF_2, AB10 IO_L51N_2, AB11 IO_L43N_2, AB13 IO_L34N_2, AB14 VCCO_2, AB15 IO_L19P_2, AB17 IO_L15P_2, AB18 IO_L11N_2, AC1 IO_L34N_M3UDQSN_3, AC2 IO_L34P_M3UDQS_3, AC3 IO_L18N_3, AC4 IO_L3P_3, AC5 IO_L10P_3, AC6 VCCO_3, AC7 IO_L1P_3, AC9 IO_L58P_2, AC10 VCCO_2, AC11 IO_L45P_2, AC12 IO_L41N_VREF_2, AC13 IO_L31P_GCLK31_D14_2, AC14 IO_L19N_2, AC15 IO_L16P_2, AC16 IO_L17P_2, AC17 IO_L15N_2, AC18 VCCO_2, AC19 IO_L7P_2, AC20 IO_L5P_2, AC21 VCCO_2, AD1 IO_L33N_M3DQ13_3, AD2 VCCO_3, AD3 IO_L33P_M3DQ12_3, AD4 IO_L3N_3, AD5 IO_L10N_3, AD6 IO_L63P_2, AD7 IO_L1N_VREF_3, AD8 IO_L53P_2, AD9 IO_L58N_2, AD10 IO_L49P_D3_2, AD11 IO_L45N_2, AD12 IO_L32P_GCLK29_2, AD13 IO_L31N_GCLK30_D15_2, AD14 IO_L29P_GCLK3_2, AD15 IO_L16N_VREF_2, AD16 IO_L13P_M1_2, AD17 IO_L17N_2, AD18 IO_L9P_2, AD19 IO_L7N_2, AD20 IO_L3P_D0_DIN_MISO_MISO1_2, AD21 IO_L5N_2, AD22 IO_L1P_CCLK_2, AE1 IO_L35N_M3DQ11_3, AE2 IO_L35P_M3DQ10_3, AE3 IO_L2P_3, AE4 IO_L65P_INIT_B_2, AE5 IO_L64P_D8_2, AE7 IO_L62P_D5_2, AE8 VCCO_2, AE9 IO_L48P_D7_2, AE11 IO_L47P_2, AE12 VCCO_2, AE13 IO_L30P_GCLK1_D13_2, AE15 IO_L14P_D11_2, AE16 VCCO_2, AE17 IO_L12P_D1_MISO2_2, AE19 IO_L4P_2, AE20 VCCO_2, AE21 IO_L2P_CMPCLK_2, AF2 IO_L2N_3, AF4 IO_L65N_CSO_B_2, AF5 IO_L64N_D9_2, AF6 IO_L63N_2, AF7 IO_L62N_D6_2, AF8 IO_L53N_2, AF9 IO_L48N_RDWR_B_VREF_2, AF10 IO_L49N_D4_2, AF11 IO_L47N_2, AF12 IO_L32N_GCLK28_2, AF13 IO_L30N_GCLK0_USERCCLK_2, AF14 IO_L29N_GCLK2_2, AF15 IO_L14N_D12_2, AF16 IO_L13N_D10_2, AF17 IO_L12N_D2_MISO3_2, AF18 IO_L9N_2, AF19 IO_L4N_VREF_2, AF20 IO_L3N_MOSI_CSI_B_MISO0_2, AF21 IO_L2N_CMPMOSI_2, AF22 IO_L1N_M0_CMPMISO_2, L3 IO_L54N_M3A11_3, L4 IO_L54P_M3RESET_3, L6 IO_L57N_VREF_3, L7 IO_L57P_3, M4 IO_L55N_M3A14_3, M6 IO_L55P_M3A13_3, M7 VCCO_3, M8 IO_L53N_M3A12_3, M9 IO_L53P_M3CKE_3, M10 IO_L51P_M3A10_3, N3 IO_L52N_M3A9_3, N4 IO_L52P_M3A8_3, N5 IO_L50N_M3BA2_3, N6 IO_L47N_M3A1_3, N7 IO_L47P_M3A0_3, N8 IO_L43P_GCLK23_M3RASN_3, N9 IO_L51N_M3A4_3, P1 IO_L48N_M3BA1_3, P3 IO_L48P_M3BA0_3, P4 VCCO_3, P5 IO_L50P_M3WE_3, P6 IO_L45N_M3ODT_3, P7 IO_L45P_M3A3_3, P8 IO_L43N_GCLK22_IRDY2_M3CASN_3, P9 VCCO_3, P10 IO_L49P_M3A7_3, R1 IO_L44N_GCLK20_M3A6_3, R2 IO_L44P_GCLK21_M3A5_3, R3 IO_L46N_M3CLKN_3, R4 IO_L46P_M3CLK_3, R5 IO_L30P_3, R6 IO_L31N_VREF_3, R7 IO_L31P_3, R9 IO_L49N_M3A2_3, R10 IO_L27P_3, T1 IO_L41N_GCLK26_M3DQ5_3, T2 VCCO_3, T3 IO_L41P_GCLK27_M3DQ4_3, T4 IO_L30N_3, T6 IO_L29N_3, T7 VCCO_3, T8 IO_L29P_3, T9 IO_L27N_3, T10 IO_L25P_3, U1 IO_L40N_M3DQ7_3, U2 IO_L40P_M3DQ6_3, U3 IO_L28N_3, U4 IO_L28P_3, U5 IO_L24P_3, U7 IO_L23N_3, U8 IO_L23P_3, U9 IO_L25N_3, U12 IO_L50N_2, U13 IO_L50P_2, U15 IO_L42P_2, V1 IO_L39N_M3LDQSN_3, V3 IO_L39P_M3LDQS_3, V4 IO_L42P_GCLK25_TRDY2_M3UDM_3, V5 IO_L24N_3, V6 IO_L17N_VREF_3, V7 IO_L17P_3, V8 IO_L19N_3, V10 IO_L21N_3, V11 IO_L52P_2, V12 IO_L46P_2, V13 IO_L44P_2, V14 IO_L42N_2, V15 IO_L18P_2, V16 IO_L8P_2, W1 IO_L38N_M3DQ3_3, W2 IO_L38P_M3DQ2_3, W3 IO_L42N_GCLK24_M3LDM_3, W4 VCCO_3, W5 IO_L22P_3, W6 VCCO_3, W7 IO_L15N_3, W8 IO_L15P_3, W9 IO_L19P_3, W10 IO_L21P_3, W11 IO_L52N_2, W12 IO_L46N_2, W13 IO_L33P_2, W14 IO_L44N_2, W16 IO_L18N_2, W17 IO_L8N_2, Y1 IO_L37N_M3DQ1_3, Y2 VCCO_3, Y3 IO_L37P_M3DQ0_3, Y5 IO_L22N_3, Y6 IO_L7N_3, Y8 IO_L9N_3, Y9 IO_L9P_3, Y10 IO_L51P_2, Y12 VCCO_2, Y13 IO_L33N_2, Y14 IO_L28P_2, Y15 IO_L20P_2, Y16 IO_L10P_2, Y17 VCCO_2, Y18 IO_L6P_2
part C pins: A23 IO_L1N_A24_VREF_5, A25 IO_L10N_M5A1_5, B1 IO_L81N_M4A11_4, B2 IO_L81P_M4RESET_4, B23 IO_L1P_A25_5, B24 IO_L10P_M5A0_5, B25 IO_L12P_M5A3_5, B26 IO_L12N_M5ODT_5, C1 IO_L79N_M4A9_4, C2 IO_L79P_M4A8_4, C3 IO_L83N_VREF_4, C4 IO_L83P_4, C24 IO_L3N_M5A11_5, C25 IO_L11P_M5CLK_5, C26 IO_L11N_M5CLKN_5, D1 IO_L68N_M4DQ5_4, D2 VCCO_4, D3 IO_L68P_M4DQ4_4, D22 IO_L4N_M5A12_5, D23 IO_L3P_M5RESET_5, D24 IO_L17P_M5DQ6_5, D25 VCCO_5, D26 IO_L17N_M5DQ7_5, E1 IO_L67N_M4DQ7_4, E2 IO_L67P_M4DQ6_4, E3 IO_L77N_M4BA2_4, E4 IO_L77P_M4WE_4, E5 IO_L80N_M4A12_4, E23 IO_L7P_M5WE_5, E24 IO_L7N_M5BA2_5, E25 IO_L16P_M5DQ4_5, E26 IO_L16N_M5DQ5_5, F1 IO_L66N_M4LDQSN_4, F3 IO_L66P_M4LDQS_4, F4 VCCO_4, F5 IO_L80P_M4CKE_4, F22 IO_L4P_M5CKE_5, F23 VCCO_5, F24 IO_L18P_M5LDQS_5, F26 IO_L18N_M5LDQSN_5, G1 IO_L65N_M4DQ3_4, G2 IO_L65P_M4DQ2_4, G3 IO_L73N_M4CLKN_4, G4 IO_L73P_M4CLK_4, G5 IO_L78N_M4A4_4, G6 IO_L78P_M4A10_4, G7 IO_L82N_M4A14_4, G19 IO_L9N_M5BA1_5, G20 IO_L2P_M5A13_5, G21 IO_L2N_M5A14_5, G22 IO_L6N_M5A4_5, G23 IO_L8P_M5A7_5, G24 IO_L8N_M5A2_5, G25 IO_L20P_M5DQ0_5, G26 IO_L20N_M5DQ1_5, H1 IO_L64N_M4DQ1_4, H2 VCCO_4, H3 IO_L64P_M4DQ0_4, H5 IO_L75N_M4BA1_4, H6 IO_L75P_M4BA0_4, H7 IO_L72N_M4ODT_4, H8 IO_L82P_M4A13_4, H18 IO_L9P_M5BA0_5, H19 IO_L27P_5, H20 IO_L5P_M5A8_5, H21 IO_L5N_M5A9_5, H22 IO_L6P_M5A10_5, H24 IO_L19P_M5DQ2_5, H25 VCCO_5, H26 IO_L19N_M5DQ3_5, J1 IO_L63N_M4DQ9_4, J2 IO_L63P_M4DQ8_4, J3 IO_L69N_M4LDM_4, J4 IO_L69P_M4UDM_4, J5 IO_L71N_M4A6_4, J6 VCCO_4, J7 IO_L72P_M4A3_4, J10 IO_L76P_M4A7_4, J20 IO_L27N_5, J21 VCCO_5, J22 IO_L14N_M5CASN_5, J23 IO_L15P_M5UDM_5, J24 IO_L15N_M5LDM_5, J25 IO_L22P_M5DQ10_5, J26 IO_L22N_M5DQ11_5, K1 IO_L62N_M4DQ11_4, K3 IO_L62P_M4DQ10_4, K4 VCCO_4, K5 IO_L71P_M4A5_4, K6 IO_L70N_M4CASN_4, K7 IO_L70P_M4RASN_4, K8 IO_L58P_4, K9 IO_L76N_M4A2_4, K10 IO_L74P_M4A0_4, K20 IO_L13P_M5A5_5, K21 IO_L13N_M5A6_5, K22 IO_L14P_M5RASN_5, K23 VCCO_5, K24 IO_L21P_M5DQ8_5, K26 IO_L21N_M5DQ9_5, L1 IO_L61N_M4UDQSN_4, L2 IO_L61P_M4UDQS_4, L8 IO_L58N_VREF_4, L9 IO_L74N_M4A1_4, L20 IO_L26P_5, L21 IO_L26N_VREF_5, L25 IO_L24P_M5DQ12_5, L26 IO_L24N_M5DQ13_5, M1 IO_L60N_M4DQ13_4, M2 VCCO_4, M3 IO_L60P_M4DQ12_4, M24 IO_L23P_M5UDQS_5, M25 VCCO_5, M26 IO_L23N_M5UDQSN_5, N1 IO_L59N_M4DQ15_4, N2 IO_L59P_M4DQ14_4, N25 IO_L25P_M5DQ14_5, N26 IO_L25N_M5DQ15_5
part D pins: A24 TDO, AC22 CMPCS_B_2, AD23 SUSPEND, AF3 PROGRAM_B_2, AF23 DONE_2, C23 TMS, E21 TCK, F20 TDI
part E pins: A1 GND, A26 GND, AA6 VCCAUX, AA10 VCCAUX, AA16 VCCAUX, AA20 RFUSE, AA21 VCCAUX, AB2 GND, AB12 GND, AB16 GND, AB19 VFS, AB20 GND, AB25 GND, AC8 GND, AE6 GND, AE10 GND, AE14 GND, AE18 GND, AE22 GND, AF1 GND, AF26 GND, B5 GND, B9 GND, B13 GND, B17 GND, B21 GND, D4 GND, E7 GND, E11 GND, E15 GND, E22 GND, F2 GND, F6 VCCAUX, F19 GND, F21 VCCAUX, F25 GND, G12 VCCAUX, G15 VCCAUX, H4 GND, H11 GND, H23 GND, J8 GND, J9 VCCAUX, J18 VCCAUX, J19 GND, K2 GND, K11 VCCINT, K13 VCCAUX, K16 GND, K17 VCCINT, K25 GND, L5 VCCAUX, L10 VCCINT, L11 GND, L12 VCCINT, L13 GND, L14 VCCINT, L15 GND, L16 VCCINT, L22 VCCAUX, M5 GND, M11 VCCINT, M12 GND, M13 VCCINT, M14 GND, M15 VCCINT, M16 GND, M17 VCCAUX, M22 GND, N10 VCCAUX, N11 GND, N12 VCCINT, N13 GND, N14 VCCINT, N15 GND, N16 VCCINT, P2 GND, P11 VCCINT, P12 GND, P13 VCCINT, P14 GND, P15 VCCINT, P16 GND, P19 GND, P25 GND, R8 GND, R11 GND, R12 VCCINT, R13 GND, R14 VCCINT, R15 GND, R16 VCCINT, T5 GND, T11 VCCINT, T12 GND, T13 VCCINT, T14 GND, T15 VCCINT, T16 GND, T17 VCCINT, T21 GND, U6 VCCAUX, U10 VCCINT, U11 GND, U14 VCCAUX, U16 VCCINT, V2 GND, V9 VCCAUX, V25 GND, W15 GND, W20 GND, W21 VBATT, Y4 GND, Y7 GND, Y11 GND, Y19 VCCAUX, Y23 GND

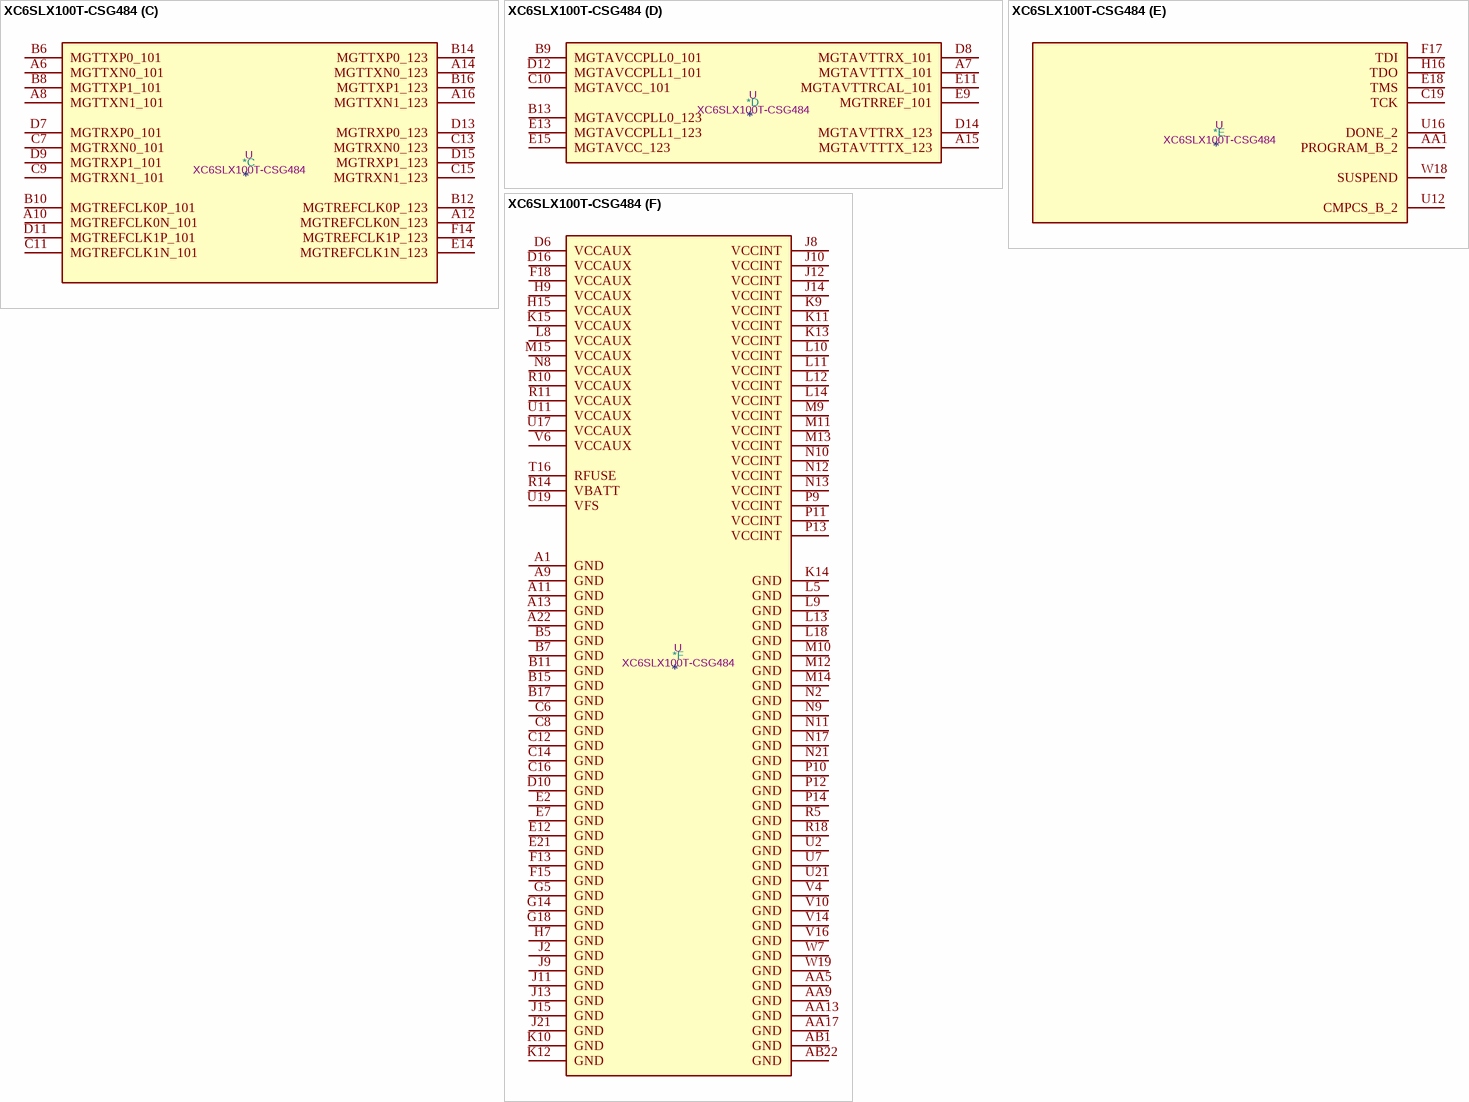
[diagram p42: symbol XC6SLX100T-CSG484]

## XC6SLX100T-CSG484
designator *  value XC6SLX100T-CSG484  Reference: U
ki_keywords: FPGA; ki_description: Spartan 6 LXT 100 XC6SLX100T-CSG484
part A pins: A4 IO_L1N_VREF_0, A5 IO_L2N_0, A17 IO_L62N_VREF_0, A18 IO_L63N_SCP6_0, A19 IO_L64N_SCP4_0, A20 IO_L16P_1, A21 IO_L16N_1, AA19 VCCO_1, AA20 IO_L61P_1, AA21 IO_L53P_1, AA22 IO_L53N_VREF_1, AB19 IO_L65P_1, AB20 IO_L65N_1, AB21 IO_L61N_1, B3 IO_L1P_HSWAPEN_0, B4 VCCO_0, B18 IO_L63P_SCP7_0, B19 VCCO_0, B20 IO_L64P_SCP5_0, B21 IO_L37P_A7_M1A0_1, B22 IO_L37N_A6_M1A1_1, C5 IO_L2P_0, C17 IO_L62P_0, C18 IO_L65N_SCP2_0, C20 IO_L35P_A11_M1A7_1, C21 VCCO_1, C22 IO_L35N_A10_M1A2_1, D5 IO_L4N_0, D17 IO_L51N_0, D18 IO_L65P_SCP3_0, D19 IO_L66P_SCP1_0, D20 IO_L66N_SCP0_0, D21 IO_L33P_A15_M1A10_1, D22 IO_L33N_A14_M1A4_1, E5 IO_L4P_0, E6 IO_L3N_0, E8 IO_L6N_0, E10 VCCO_0, E16 IO_L51P_0, E17 VCCO_0, E19 VCCO_1, E20 IO_L31P_A19_M1CKE_1, E22 IO_L31N_A18_M1A12_1, F6 VCCO_0, F7 IO_L3P_0, F8 IO_L7N_0, F9 IO_L6P_0, F10 IO_L35P_GCLK17_0, F11 IO_L35N_GCLK16_0, F12 IO_L37N_GCLK12_0, F16 IO_L50N_0, F19 IO_L18P_1, F20 IO_L18N_1, F21 IO_L29P_A23_M1A13_1, F22 IO_L29N_A22_M1A14_1, G7 IO_L5P_0, G8 IO_L5N_0, G9 IO_L7P_0, G10 IO_L34N_GCLK18_0, G11 IO_L36N_GCLK14_0, G12 IO_L37P_GCLK13_0, G13 VCCO_0, G15 IO_L49N_0, G16 IO_L50P_0, G17 IO_L1P_A25_1, G19 IO_L1N_A24_VREF_1, G20 IO_L32P_A17_M1A8_1, G21 VCCO_1, G22 IO_L32N_A16_M1A9_1, H8 VCCO_0, H10 IO_L34P_GCLK19_0, H11 IO_L36P_GCLK15_0, H12 IO_L38P_0, H13 IO_L38N_VREF_0, H14 IO_L49P_0, H17 IO_L17P_1, H18 IO_L17N_1, H19 IO_L30P_A21_M1RESET_1, H20 IO_L30N_A20_M1A11_1, H21 IO_L34P_A13_M1WE_1, H22 IO_L34N_A12_M1BA2_1, J16 IO_L15P_1, J17 IO_L38P_A5_M1CLK_1, J18 VCCO_1, J19 IO_L38N_A4_M1CLKN_1, J20 IO_L39P_M1A3_1, J22 IO_L39N_M1ODT_1, K16 IO_L20N_1, K17 IO_L15N_1, K18 IO_L36P_A9_M1BA0_1, K19 IO_L36N_A8_M1BA1_1, K20 IO_L42N_GCLK6_TRDY1_M1LDM_1, K21 IO_L44P_A3_M1DQ6_1, K22 IO_L44N_A2_M1DQ7_1, L15 IO_L20P_1, L16 VCCO_1, L17 IO_L40N_GCLK10_M1A6_1, L19 IO_L42P_GCLK7_M1UDM_1, L20 IO_L43P_GCLK5_M1DQ4_1, L21 VCCO_1, L22 IO_L43N_GCLK4_M1DQ5_1, M16 IO_L19N_1, M17 IO_L40P_GCLK11_M1A5_1, M18 IO_L41P_GCLK9_IRDY1_M1RASN_1, M19 IO_L41N_GCLK8_M1CASN_1, M20 IO_L46N_FOE_B_M1DQ3_1, M21 IO_L45P_A1_M1LDQS_1, M22 IO_L45N_A0_M1LDQSN_1, N14 IO_L28P_1, N15 IO_L28N_VREF_1, N16 IO_L19P_1, N18 VCCO_1, N19 IO_L46P_FCS_B_M1DQ2_1, N20 IO_L47P_FWE_B_M1DQ0_1, N22 IO_L47N_LDC_M1DQ1_1, P15 IO_L62P_1, P16 IO_L62N_1, P17 IO_L66P_1, P18 IO_L66N_1, P19 IO_L64P_1, P20 IO_L64N_1, P21 IO_L48P_HDC_M1DQ8_1, P22 IO_L48N_M1DQ9_1, R12 IO_L58P_1, R13 IO_L58N_1, R15 VCCO_1, R16 IO_L68N_1, R17 IO_L70P_1, R19 IO_L70N_1, R20 IO_L49P_M1DQ10_1, R21 VCCO_1, R22 IO_L49N_M1DQ11_1, T12 IO_L60P_1, T13 IO_L60N_1, T15 IO_L68P_1, T17 IO_L72P_1, T18 IO_L72N_1, T19 IO_L74P_AWAKE_1, T20 IO_L74N_DOUT_BUSY_1, T21 IO_L50P_M1UDQS_1, T22 IO_L50N_M1UDQSN_1, U18 VCCO_1, U20 IO_L51P_M1DQ12_1, U22 IO_L51N_M1DQ13_1, V17 IO_L73P_1, V18 IO_L73N_1, V19 IO_L71P_1, V20 IO_L71N_1, V21 IO_L52P_M1DQ14_1, V22 IO_L52N_M1DQ15_1, W20 IO_L59P_1, W21 VCCO_1, W22 IO_L59N_1, Y19 IO_L67P_1, Y20 IO_L67N_1, Y21 IO_L63P_1, Y22 IO_L63N_1
part B pins: A2 IO_L69N_3, A3 IO_L69P_3, AA2 IO_L1P_3, AA3 VCCO_3, AA4 IO_L12P_3, AA6 IO_L64P_D8_2, AA7 VCCO_2, AA8 IO_L49P_D3_2, AA10 IO_L32P_GCLK29_2, AA11 VCCO_2, AA12 IO_L30P_GCLK1_D13_2, AA14 IO_L15P_2, AA15 VCCO_2, AA16 IO_L4P_2, AA18 IO_L2P_CMPCLK_2, AB2 IO_L1N_VREF_3, AB3 IO_L8N_3, AB4 IO_L12N_3, AB5 IO_L65N_CSO_B_2, AB6 IO_L64N_D9_2, AB7 IO_L63N_2, AB8 IO_L49N_D4_2, AB9 IO_L48N_RDWR_B_VREF_2, AB10 IO_L32N_GCLK28_2, AB11 IO_L31N_GCLK30_D15_2, AB12 IO_L30N_GCLK0_USERCCLK_2, AB13 IO_L41N_VREF_2, AB14 IO_L15N_2, AB15 IO_L5N_2, AB16 IO_L4N_VREF_2, AB17 IO_L3N_MOSI_CSI_B_MISO0_2, AB18 IO_L2N_CMPMOSI_2, B1 IO_L54N_M3A11_3, B2 IO_L54P_M3RESET_3, C1 IO_L52N_M3A9_3, C2 VCCO_3, C3 IO_L52P_M3A8_3, C4 IO_L75N_3, D1 IO_L50N_M3BA2_3, D2 IO_L50P_M3WE_3, D3 IO_L83N_VREF_3, D4 IO_L75P_3, E1 IO_L48N_M3BA1_3, E3 IO_L48P_M3BA0_3, E4 IO_L83P_3, F1 IO_L46N_M3CLKN_3, F2 IO_L46P_M3CLK_3, F3 IO_L71N_3, F4 VCCO_3, F5 IO_L71P_3, G1 IO_L44N_GCLK20_M3A6_3, G2 VCCO_3, G3 IO_L44P_GCLK21_M3A5_3, G4 IO_L73N_3, G6 IO_L73P_3, H1 IO_L42N_GCLK24_M3LDM_3, H2 IO_L42P_GCLK25_TRDY2_M3UDM_3, H3 IO_L74N_3, H4 IO_L74P_3, H5 IO_L72N_3, H6 IO_L72P_3, J1 IO_L41N_GCLK26_M3DQ5_3, J3 IO_L41P_GCLK27_M3DQ4_3, J4 IO_L53N_M3A12_3, J5 VCCO_3, J6 IO_L70N_3, J7 IO_L70P_3, K1 IO_L40N_M3DQ7_3, K2 IO_L40P_M3DQ6_3, K3 IO_L49N_M3A2_3, K4 IO_L49P_M3A7_3, K5 IO_L53P_M3CKE_3, K6 IO_L55N_M3A14_3, K7 IO_L60N_3, K8 IO_L60P_3, L1 IO_L39N_M3LDQSN_3, L2 VCCO_3, L3 IO_L39P_M3LDQS_3, L4 IO_L47N_M3A1_3, L6 IO_L55P_M3A13_3, L7 VCCO_3, M1 IO_L38N_M3DQ3_3, M2 IO_L38P_M3DQ2_3, M3 IO_L45N_M3ODT_3, M4 IO_L45P_M3A3_3, M5 IO_L47P_M3A0_3, M6 IO_L51N_M3A4_3, M7 IO_L58N_3, M8 IO_L58P_3, N1 IO_L37N_M3DQ1_3, N3 IO_L37P_M3DQ0_3, N4 IO_L43P_GCLK23_M3RASN_3, N5 VCCO_3, N6 IO_L51P_M3A10_3, N7 IO_L57N_VREF_3, P1 IO_L36N_M3DQ9_3, P2 IO_L36P_M3DQ8_3, P3 IO_L43N_GCLK22_IRDY2_M3CASN_3, P4 IO_L21P_3, P5 IO_L23N_3, P6 IO_L23P_3, P7 IO_L57P_3, P8 IO_L59N_3, R1 IO_L35N_M3DQ11_3, R2 VCCO_3, R3 IO_L35P_M3DQ10_3, R4 IO_L21N_3, R6 IO_L22N_3, R7 VCCO_3, R8 IO_L59P_3, R9 IO_L25P_3, T1 IO_L34N_M3UDQSN_3, T2 IO_L34P_M3UDQS_3, T3 IO_L26N_3, T4 IO_L26P_3, T5 IO_L20N_3, T6 IO_L20P_3, T7 IO_L22P_3, T8 IO_L25N_3, T9 VCCO_3, T10 IO_L31N_VREF_3, T11 IO_L31P_3, T14 IO_L20P_2, U1 IO_L33N_M3DQ13_3, U3 IO_L33P_M3DQ12_3, U4 IO_L7P_3, U5 VCCO_3, U6 IO_L13P_3, U8 IO_L24N_3, U9 IO_L24P_3, U10 IO_L11N_3, U13 IO_L20N_2, U14 VCCO_2, U15 IO_L13P_M1_2, V1 IO_L32N_M3DQ15_3, V2 IO_L32P_M3DQ14_3, V3 IO_L7N_3, V5 IO_L13N_3, V7 IO_L50P_2, V8 VCCO_2, V9 IO_L44P_2, V11 IO_L11P_3, V12 VCCO_2, V13 IO_L12P_D1_MISO2_2, V15 IO_L13N_D10_2, W1 IO_L9N_3, W2 VCCO_3, W3 IO_L9P_3, W4 IO_L10P_3, W5 VCCO_2, W6 IO_L62P_D5_2, W8 IO_L50N_2, W9 IO_L43P_2, W10 IO_L44N_2, W11 IO_L29P_GCLK3_2, W12 IO_L42P_2, W13 IO_L12N_D2_MISO3_2, W14 IO_L16P_2, W15 IO_L14P_D11_2, W16 VCCO_2, W17 IO_L1P_CCLK_2, Y1 IO_L2N_3, Y2 IO_L2P_3, Y3 IO_L8P_3, Y4 IO_L10N_3, Y5 IO_L65P_INIT_B_2, Y6 IO_L62N_D6_2, Y7 IO_L63P_2, Y8 IO_L43N_2, Y9 IO_L48P_D7_2, Y10 IO_L29N_GCLK2_2, Y11 IO_L31P_GCLK31_D14_2, Y12 IO_L42N_2, Y13 IO_L41P_2, Y14 IO_L16N_VREF_2, Y15 IO_L5P_2, Y16 IO_L14N_D12_2, Y17 IO_L3P_D0_DIN_MISO_MISO1_2, Y18 IO_L1N_M0_CMPMISO_2
part C pins: A6 MGTTXN0_101, A8 MGTTXN1_101, A10 MGTREFCLK0N_101, A12 MGTREFCLK0N_123, A14 MGTTXN0_123, A16 MGTTXN1_123, B6 MGTTXP0_101, B8 MGTTXP1_101, B10 MGTREFCLK0P_101, B12 MGTREFCLK0P_123, B14 MGTTXP0_123, B16 MGTTXP1_123, C7 MGTRXN0_101, C9 MGTRXN1_101, C11 MGTREFCLK1N_101, C13 MGTRXN0_123, C15 MGTRXN1_123, D7 MGTRXP0_101, D9 MGTRXP1_101, D11 MGTREFCLK1P_101, D13 MGTRXP0_123, D15 MGTRXP1_123, E14 MGTREFCLK1N_123, F14 MGTREFCLK1P_123
part D pins: A7 MGTAVTTTX_101, A15 MGTAVTTTX_123, B9 MGTAVCCPLL0_101, B13 MGTAVCCPLL0_123, C10 MGTAVCC_101, D8 MGTAVTTRX_101, D12 MGTAVCCPLL1_101, D14 MGTAVTTRX_123, E9 MGTRREF_101, E11 MGTAVTTRCAL_101, E13 MGTAVCCPLL1_123, E15 MGTAVCC_123
part E pins: AA1 PROGRAM_B_2, C19 TCK, E18 TMS, F17 TDI, H16 TDO, U12 CMPCS_B_2, U16 DONE_2, W18 SUSPEND
part F pins: A1 GND, A9 GND, A11 GND, A13 GND, A22 GND, AA5 GND, AA9 GND, AA13 GND, AA17 GND, AB1 GND, AB22 GND, B5 GND, B7 GND, B11 GND, B15 GND, B17 GND, C6 GND, C8 GND, C12 GND, C14 GND, C16 GND, D6 VCCAUX, D10 GND, D16 VCCAUX, E2 GND, E7 GND, E12 GND, E21 GND, F13 GND, F15 GND, F18 VCCAUX, G5 GND, G14 GND, G18 GND, H7 GND, H9 VCCAUX, H15 VCCAUX, J2 GND, J8 VCCINT, J9 GND, J10 VCCINT, J11 GND, J12 VCCINT, J13 GND, J14 VCCINT, J15 GND, J21 GND, K9 VCCINT, K10 GND, K11 VCCINT, K12 GND, K13 VCCINT, K14 GND, K15 VCCAUX, L5 GND, L8 VCCAUX, L9 GND, L10 VCCINT, L11 VCCINT, L12 VCCINT, L13 GND, L14 VCCINT, L18 GND, M9 VCCINT, M10 GND, M11 VCCINT, M12 GND, M13 VCCINT, M14 GND, M15 VCCAUX, N2 GND, N8 VCCAUX, N9 GND, N10 VCCINT, N11 GND, N12 VCCINT, N13 VCCINT, N17 GND, N21 GND, P9 VCCINT, P10 GND, P11 VCCINT, P12 GND, P13 VCCINT, P14 GND, R5 GND, R10 VCCAUX, R11 VCCAUX, R14 VBATT, R18 GND, T16 RFUSE, U2 GND, U7 GND, U11 VCCAUX, U17 VCCAUX, U19 VFS, U21 GND, V4 GND, V6 VCCAUX, V10 GND, V14 GND, V16 GND, W7 GND, W19 GND

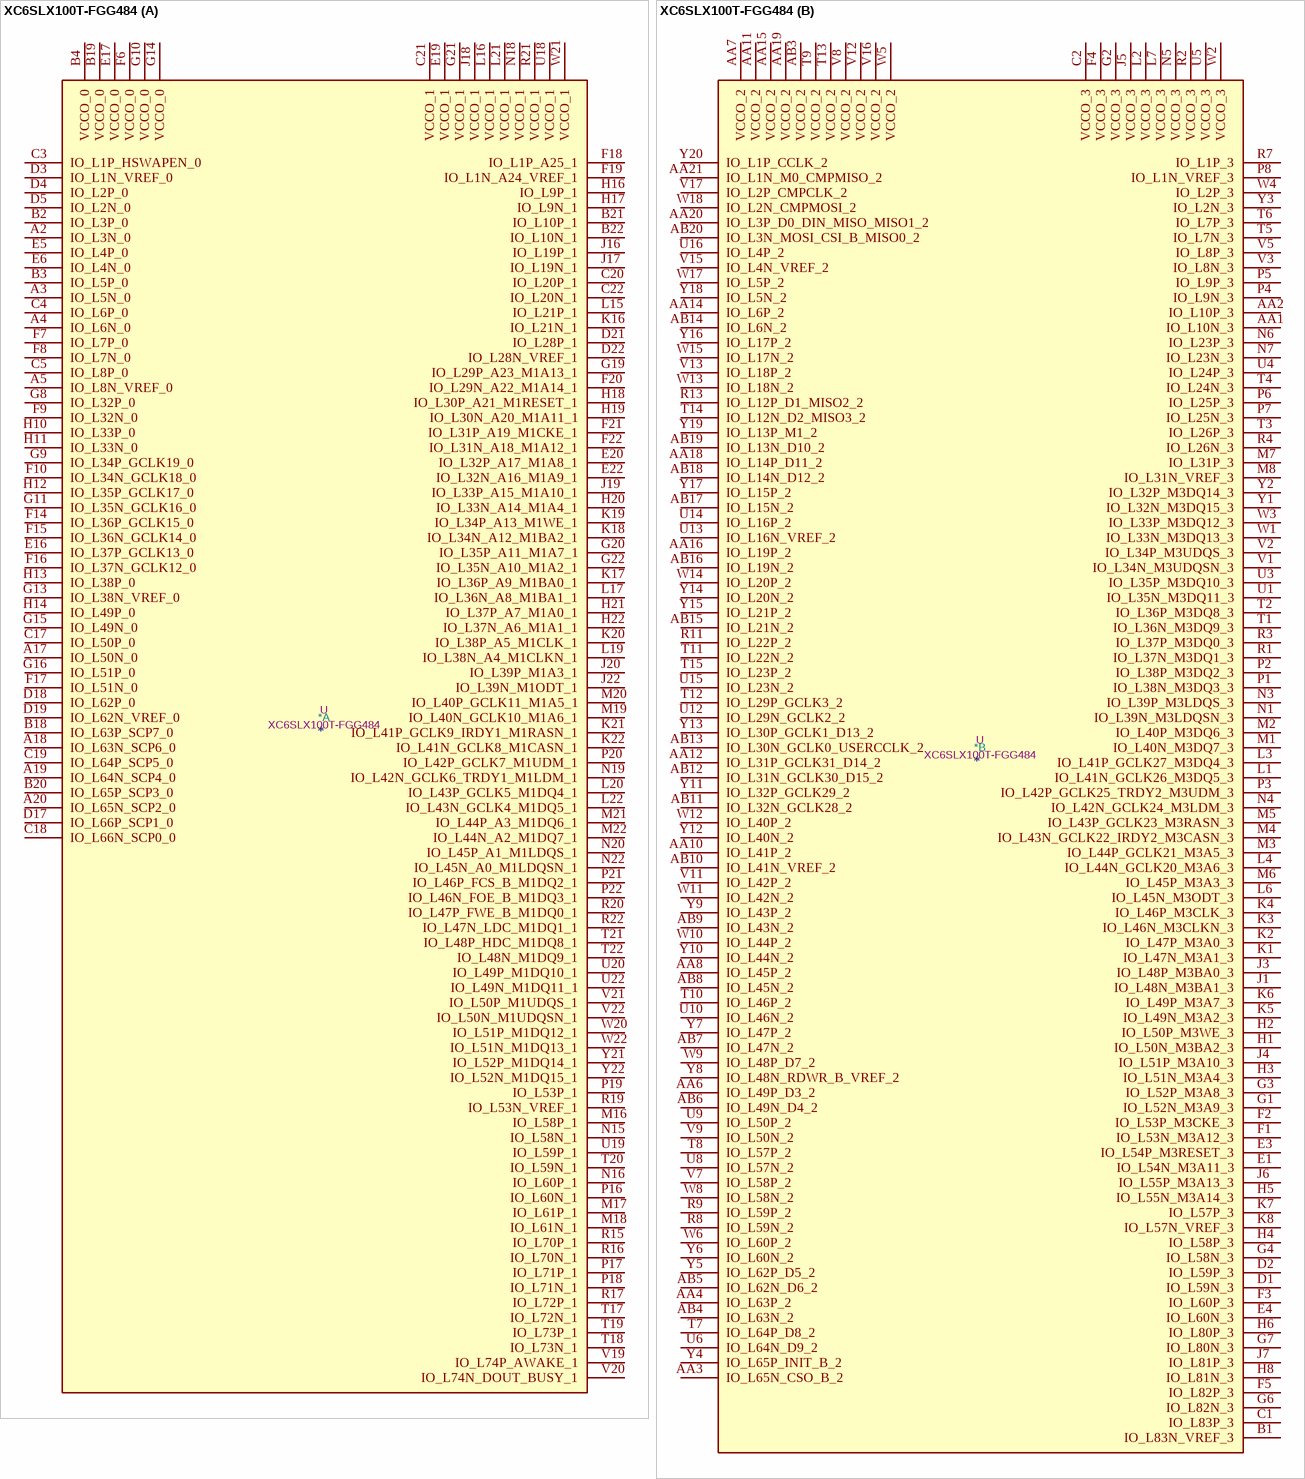
[diagram p43: symbol XC6SLX100T-FGG484]

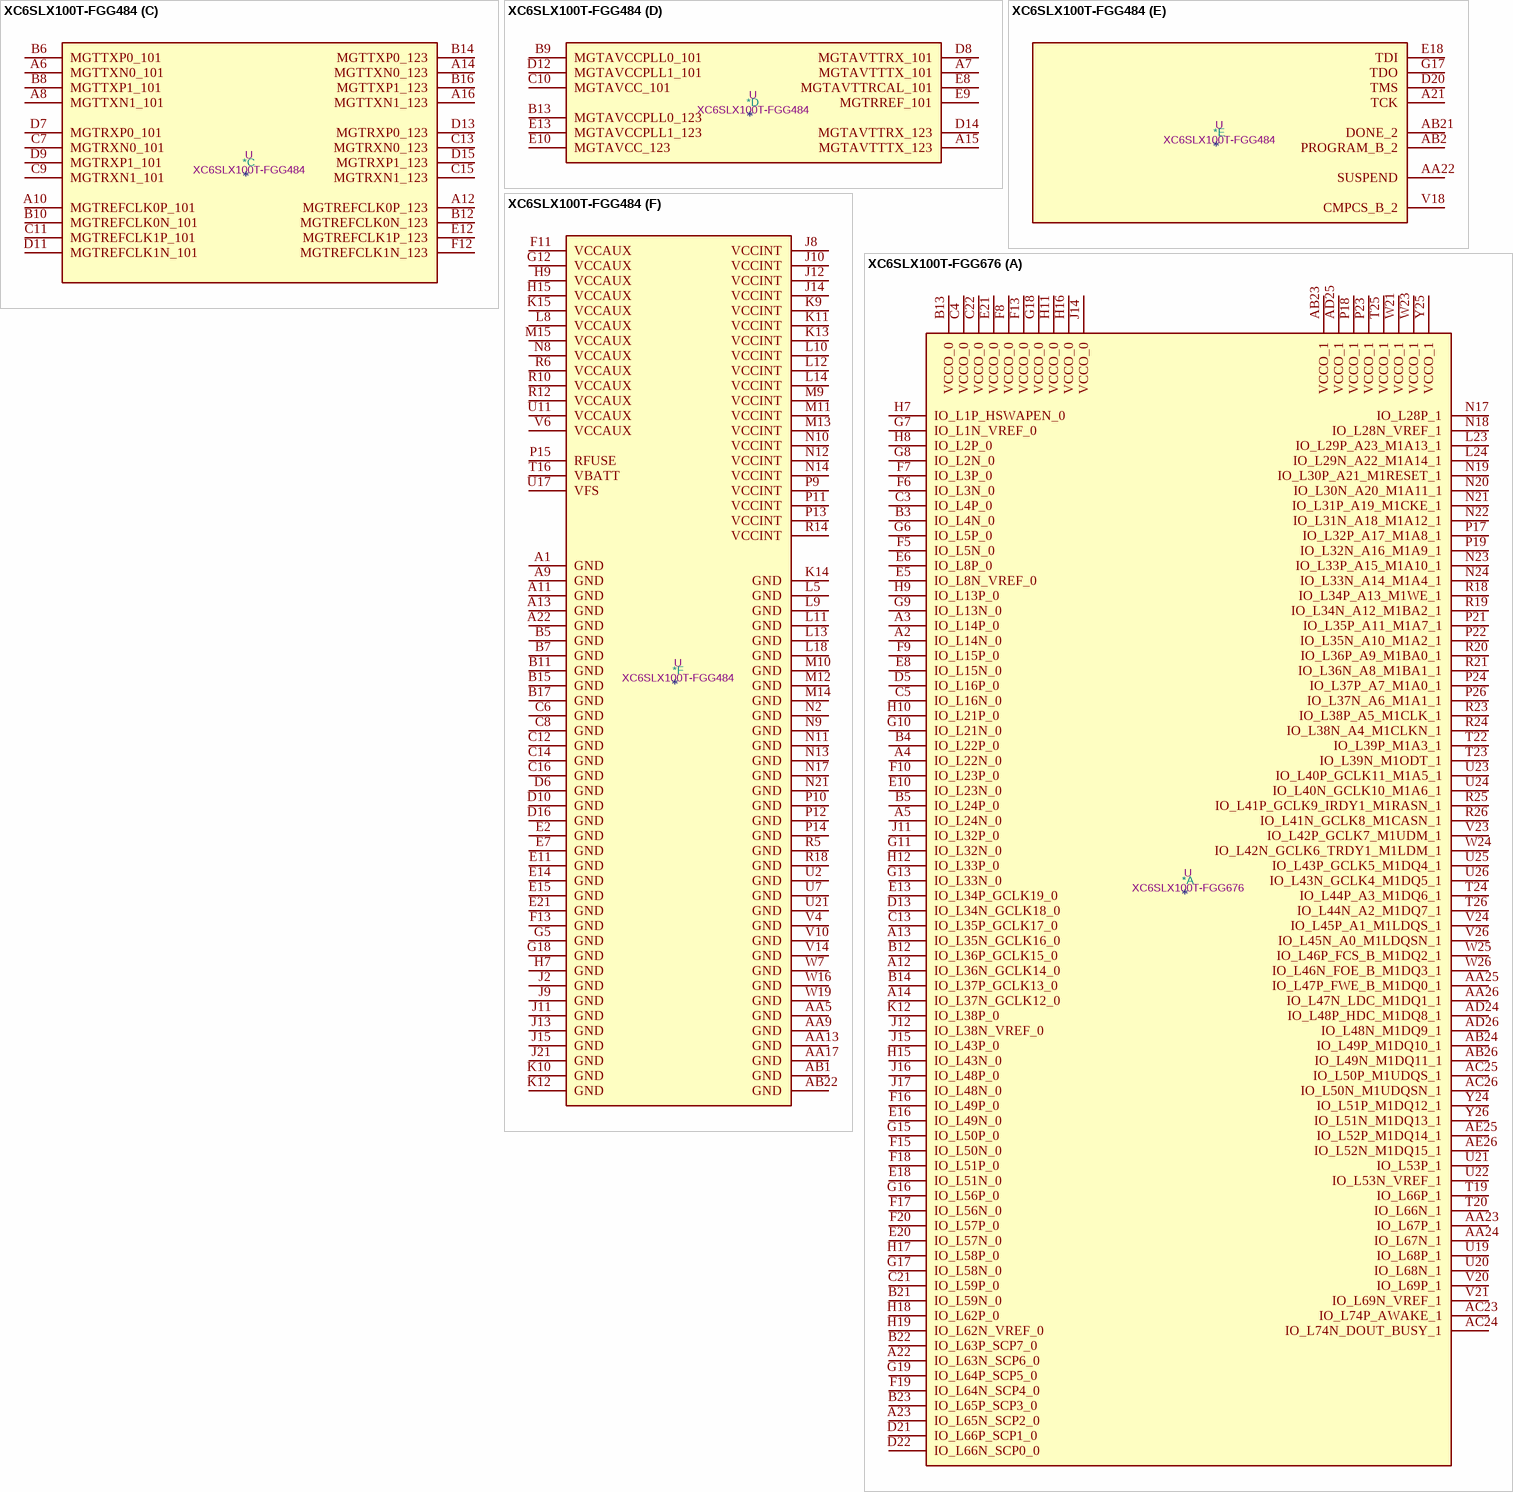
[diagram p44: symbols XC6SLX100T-FGG484 to XC6SLX100T-FGG676]

## XC6SLX100T-FGG484
designator *  value XC6SLX100T-FGG484  Reference: U
ki_keywords: FPGA; ki_description: Spartan 6 LXT 100 XC6SLX100T-FGG484
part A pins: A2 IO_L3N_0, A3 IO_L5N_0, A4 IO_L6N_0, A5 IO_L8N_VREF_0, A17 IO_L50N_0, A18 IO_L63N_SCP6_0, A19 IO_L64N_SCP4_0, A20 IO_L65N_SCP2_0, B2 IO_L3P_0, B3 IO_L5P_0, B4 VCCO_0, B18 IO_L63P_SCP7_0, B19 VCCO_0, B20 IO_L65P_SCP3_0, B21 IO_L10P_1, B22 IO_L10N_1, C3 IO_L1P_HSWAPEN_0, C4 IO_L6P_0, C5 IO_L8P_0, C17 IO_L50P_0, C18 IO_L66N_SCP0_0, C19 IO_L64P_SCP5_0, C20 IO_L20P_1, C21 VCCO_1, C22 IO_L20N_1, D3 IO_L1N_VREF_0, D4 IO_L2P_0, D5 IO_L2N_0, D17 IO_L66P_SCP1_0, D18 IO_L62P_0, D19 IO_L62N_VREF_0, D21 IO_L28P_1, D22 IO_L28N_VREF_1, E5 IO_L4P_0, E6 IO_L4N_0, E16 IO_L37P_GCLK13_0, E17 VCCO_0, E19 VCCO_1, E20 IO_L32P_A17_M1A8_1, E22 IO_L32N_A16_M1A9_1, F6 VCCO_0, F7 IO_L7P_0, F8 IO_L7N_0, F9 IO_L32N_0, F10 IO_L34N_GCLK18_0, F14 IO_L36P_GCLK15_0, F15 IO_L36N_GCLK14_0, F16 IO_L37N_GCLK12_0, F17 IO_L51N_0, F18 IO_L1P_A25_1, F19 IO_L1N_A24_VREF_1, F20 IO_L29N_A22_M1A14_1, F21 IO_L31P_A19_M1CKE_1, F22 IO_L31N_A18_M1A12_1, G8 IO_L32P_0, G9 IO_L34P_GCLK19_0, G10 VCCO_0, G11 IO_L35N_GCLK16_0, G13 IO_L38N_VREF_0, G14 VCCO_0, G15 IO_L49N_0, G16 IO_L51P_0, G19 IO_L29P_A23_M1A13_1, G20 IO_L35P_A11_M1A7_1, G21 VCCO_1, G22 IO_L35N_A10_M1A2_1, H10 IO_L33P_0, H11 IO_L33N_0, H12 IO_L35P_GCLK17_0, H13 IO_L38P_0, H14 IO_L49P_0, H16 IO_L9P_1, H17 IO_L9N_1, H18 IO_L30P_A21_M1RESET_1, H19 IO_L30N_A20_M1A11_1, H20 IO_L33N_A14_M1A4_1, H21 IO_L37P_A7_M1A0_1, H22 IO_L37N_A6_M1A1_1, J16 IO_L19P_1, J17 IO_L19N_1, J18 VCCO_1, J19 IO_L33P_A15_M1A10_1, J20 IO_L39P_M1A3_1, J22 IO_L39N_M1ODT_1, K16 IO_L21N_1, K17 IO_L36P_A9_M1BA0_1, K18 IO_L34N_A12_M1BA2_1, K19 IO_L34P_A13_M1WE_1, K20 IO_L38P_A5_M1CLK_1, K21 IO_L41P_GCLK9_IRDY1_M1RASN_1, K22 IO_L41N_GCLK8_M1CASN_1, L15 IO_L21P_1, L16 VCCO_1, L17 IO_L36N_A8_M1BA1_1, L19 IO_L38N_A4_M1CLKN_1, L20 IO_L43P_GCLK5_M1DQ4_1, L21 VCCO_1, L22 IO_L43N_GCLK4_M1DQ5_1, M16 IO_L58P_1, M17 IO_L61P_1, M18 IO_L61N_1, M19 IO_L40N_GCLK10_M1A6_1, M20 IO_L40P_GCLK11_M1A5_1, M21 IO_L44P_A3_M1DQ6_1, M22 IO_L44N_A2_M1DQ7_1, N15 IO_L58N_1, N16 IO_L60P_1, N18 VCCO_1, N19 IO_L42N_GCLK6_TRDY1_M1LDM_1, N20 IO_L45P_A1_M1LDQS_1, N22 IO_L45N_A0_M1LDQSN_1, P16 IO_L60N_1, P17 IO_L71P_1, P18 IO_L71N_1, P19 IO_L53P_1, P20 IO_L42P_GCLK7_M1UDM_1, P21 IO_L46P_FCS_B_M1DQ2_1, P22 IO_L46N_FOE_B_M1DQ3_1, R15 IO_L70P_1, R16 IO_L70N_1, R17 IO_L72P_1, R19 IO_L53N_VREF_1, R20 IO_L47P_FWE_B_M1DQ0_1, R21 VCCO_1, R22 IO_L47N_LDC_M1DQ1_1, T17 IO_L72N_1, T18 IO_L73N_1, T19 IO_L73P_1, T20 IO_L59N_1, T21 IO_L48P_HDC_M1DQ8_1, T22 IO_L48N_M1DQ9_1, U18 VCCO_1, U19 IO_L59P_1, U20 IO_L49P_M1DQ10_1, U22 IO_L49N_M1DQ11_1, V19 IO_L74P_AWAKE_1, V20 IO_L74N_DOUT_BUSY_1, V21 IO_L50P_M1UDQS_1, V22 IO_L50N_M1UDQSN_1, W20 IO_L51P_M1DQ12_1, W21 VCCO_1, W22 IO_L51N_M1DQ13_1, Y21 IO_L52P_M1DQ14_1, Y22 IO_L52N_M1DQ15_1
part B pins: AA1 IO_L10N_3, AA2 IO_L10P_3, AA3 IO_L65N_CSO_B_2, AA4 IO_L63P_2, AA6 IO_L49P_D3_2, AA7 VCCO_2, AA8 IO_L45P_2, AA10 IO_L41P_2, AA11 VCCO_2, AA12 IO_L31P_GCLK31_D14_2, AA14 IO_L6P_2, AA15 VCCO_2, AA16 IO_L19P_2, AA18 IO_L14P_D11_2, AA19 VCCO_2, AA20 IO_L3P_D0_DIN_MISO_MISO1_2, AA21 IO_L1N_M0_CMPMISO_2, AB3 VCCO_2, AB4 IO_L63N_2, AB5 IO_L62N_D6_2, AB6 IO_L49N_D4_2, AB7 IO_L47N_2, AB8 IO_L45N_2, AB9 IO_L43N_2, AB10 IO_L41N_VREF_2, AB11 IO_L32N_GCLK28_2, AB12 IO_L31N_GCLK30_D15_2, AB13 IO_L30N_GCLK0_USERCCLK_2, AB14 IO_L6N_2, AB15 IO_L21N_2, AB16 IO_L19N_2, AB17 IO_L15N_2, AB18 IO_L14N_D12_2, AB19 IO_L13N_D10_2, AB20 IO_L3N_MOSI_CSI_B_MISO0_2, B1 IO_L83N_VREF_3, C1 IO_L83P_3, C2 VCCO_3, D1 IO_L59N_3, D2 IO_L59P_3, E1 IO_L54N_M3A11_3, E3 IO_L54P_M3RESET_3, E4 IO_L60N_3, F1 IO_L53N_M3A12_3, F2 IO_L53P_M3CKE_3, F3 IO_L60P_3, F4 VCCO_3, F5 IO_L82P_3, G1 IO_L52N_M3A9_3, G2 VCCO_3, G3 IO_L52P_M3A8_3, G4 IO_L58N_3, G6 IO_L82N_3, G7 IO_L80N_3, H1 IO_L50N_M3BA2_3, H2 IO_L50P_M3WE_3, H3 IO_L51N_M3A4_3, H4 IO_L58P_3, H5 IO_L55N_M3A14_3, H6 IO_L80P_3, H8 IO_L81N_3, J1 IO_L48N_M3BA1_3, J3 IO_L48P_M3BA0_3, J4 IO_L51P_M3A10_3, J5 VCCO_3, J6 IO_L55P_M3A13_3, J7 IO_L81P_3, K1 IO_L47N_M3A1_3, K2 IO_L47P_M3A0_3, K3 IO_L46N_M3CLKN_3, K4 IO_L46P_M3CLK_3, K5 IO_L49N_M3A2_3, K6 IO_L49P_M3A7_3, K7 IO_L57P_3, K8 IO_L57N_VREF_3, L1 IO_L41N_GCLK26_M3DQ5_3, L2 VCCO_3, L3 IO_L41P_GCLK27_M3DQ4_3, L4 IO_L44N_GCLK20_M3A6_3, L6 IO_L45N_M3ODT_3, L7 VCCO_3, M1 IO_L40N_M3DQ7_3, M2 IO_L40P_M3DQ6_3, M3 IO_L44P_GCLK21_M3A5_3, M4 IO_L43N_GCLK22_IRDY2_M3CASN_3, M5 IO_L43P_GCLK23_M3RASN_3, M6 IO_L45P_M3A3_3, M7 IO_L31P_3, M8 IO_L31N_VREF_3, N1 IO_L39N_M3LDQSN_3, N3 IO_L39P_M3LDQS_3, N4 IO_L42N_GCLK24_M3LDM_3, N5 VCCO_3, N6 IO_L23P_3, N7 IO_L23N_3, P1 IO_L38N_M3DQ3_3, P2 IO_L38P_M3DQ2_3, P3 IO_L42P_GCLK25_TRDY2_M3UDM_3, P4 IO_L9N_3, P5 IO_L9P_3, P6 IO_L25P_3, P7 IO_L25N_3, P8 IO_L1N_VREF_3, R1 IO_L37N_M3DQ1_3, R2 VCCO_3, R3 IO_L37P_M3DQ0_3, R4 IO_L26N_3, R7 IO_L1P_3, R8 IO_L59N_2, R9 IO_L59P_2, R11 IO_L22P_2, R13 IO_L12P_D1_MISO2_2, T1 IO_L36N_M3DQ9_3, T2 IO_L36P_M3DQ8_3, T3 IO_L26P_3, T4 IO_L24N_3, T5 IO_L7N_3, T6 IO_L7P_3, T7 IO_L64P_D8_2, T8 IO_L57P_2, T9 VCCO_2, T10 IO_L46P_2, T11 IO_L22N_2, T12 IO_L29P_GCLK3_2, T13 VCCO_2, T14 IO_L12N_D2_MISO3_2, T15 IO_L23P_2, U1 IO_L35N_M3DQ11_3, U3 IO_L35P_M3DQ10_3, U4 IO_L24P_3, U5 VCCO_3, U6 IO_L64N_D9_2, U8 IO_L57N_2, U9 IO_L50P_2, U10 IO_L46N_2, U12 IO_L29N_GCLK2_2, U13 IO_L16N_VREF_2, U14 IO_L16P_2, U15 IO_L23N_2, U16 IO_L4P_2, V1 IO_L34N_M3UDQSN_3, V2 IO_L34P_M3UDQS_3, V3 IO_L8N_3, V5 IO_L8P_3, V7 IO_L58P_2, V8 VCCO_2, V9 IO_L50N_2, V11 IO_L42P_2, V12 VCCO_2, V13 IO_L18P_2, V15 IO_L4N_VREF_2, V16 VCCO_2, V17 IO_L2P_CMPCLK_2, W1 IO_L33N_M3DQ13_3, W2 VCCO_3, W3 IO_L33P_M3DQ12_3, W4 IO_L2P_3, W5 VCCO_2, W6 IO_L60P_2, W8 IO_L58N_2, W9 IO_L48P_D7_2, W10 IO_L44P_2, W11 IO_L42N_2, W12 IO_L40P_2, W13 IO_L18N_2, W14 IO_L20P_2, W15 IO_L17N_2, W17 IO_L5P_2, W18 IO_L2N_CMPMOSI_2, Y1 IO_L32N_M3DQ15_3, Y2 IO_L32P_M3DQ14_3, Y3 IO_L2N_3, Y4 IO_L65P_INIT_B_2, Y5 IO_L62P_D5_2, Y6 IO_L60N_2, Y7 IO_L47P_2, Y8 IO_L48N_RDWR_B_VREF_2, Y9 IO_L43P_2, Y10 IO_L44N_2, Y11 IO_L32P_GCLK29_2, Y12 IO_L40N_2, Y13 IO_L30P_GCLK1_D13_2, Y14 IO_L20N_2, Y15 IO_L21P_2, Y16 IO_L17P_2, Y17 IO_L15P_2, Y18 IO_L5N_2, Y19 IO_L13P_M1_2, Y20 IO_L1P_CCLK_2
part C pins: A6 MGTTXN0_101, A8 MGTTXN1_101, A10 MGTREFCLK0P_101, A12 MGTREFCLK0P_123, A14 MGTTXN0_123, A16 MGTTXN1_123, B6 MGTTXP0_101, B8 MGTTXP1_101, B10 MGTREFCLK0N_101, B12 MGTREFCLK0N_123, B14 MGTTXP0_123, B16 MGTTXP1_123, C7 MGTRXN0_101, C9 MGTRXN1_101, C11 MGTREFCLK1P_101, C13 MGTRXN0_123, C15 MGTRXN1_123, D7 MGTRXP0_101, D9 MGTRXP1_101, D11 MGTREFCLK1N_101, D13 MGTRXP0_123, D15 MGTRXP1_123, E12 MGTREFCLK1P_123, F12 MGTREFCLK1N_123
part D pins: A7 MGTAVTTTX_101, A15 MGTAVTTTX_123, B9 MGTAVCCPLL0_101, B13 MGTAVCCPLL0_123, C10 MGTAVCC_101, D8 MGTAVTTRX_101, D12 MGTAVCCPLL1_101, D14 MGTAVTTRX_123, E8 MGTAVTTRCAL_101, E9 MGTRREF_101, E10 MGTAVCC_123, E13 MGTAVCCPLL1_123
part E pins: A21 TCK, AA22 SUSPEND, AB2 PROGRAM_B_2, AB21 DONE_2, D20 TMS, E18 TDI, G17 TDO, V18 CMPCS_B_2
part F pins: A1 GND, A9 GND, A11 GND, A13 GND, A22 GND, AA5 GND, AA9 GND, AA13 GND, AA17 GND, AB1 GND, AB22 GND, B5 GND, B7 GND, B11 GND, B15 GND, B17 GND, C6 GND, C8 GND, C12 GND, C14 GND, C16 GND, D6 GND, D10 GND, D16 GND, E2 GND, E7 GND, E11 GND, E14 GND, E15 GND, E21 GND, F11 VCCAUX, F13 GND, G5 GND, G12 VCCAUX, G18 GND, H7 GND, H9 VCCAUX, H15 VCCAUX, J2 GND, J8 VCCINT, J9 GND, J10 VCCINT, J11 GND, J12 VCCINT, J13 GND, J14 VCCINT, J15 GND, J21 GND, K9 VCCINT, K10 GND, K11 VCCINT, K12 GND, K13 VCCINT, K14 GND, K15 VCCAUX, L5 GND, L8 VCCAUX, L9 GND, L10 VCCINT, L11 GND, L12 VCCINT, L13 GND, L14 VCCINT, L18 GND, M9 VCCINT, M10 GND, M11 VCCINT, M12 GND, M13 VCCINT, M14 GND, M15 VCCAUX, N2 GND, N8 VCCAUX, N9 GND, N10 VCCINT, N11 GND, N12 VCCINT, N13 GND, N14 VCCINT, N17 GND, N21 GND, P9 VCCINT, P10 GND, P11 VCCINT, P12 GND, P13 VCCINT, P14 GND, P15 RFUSE, R5 GND, R6 VCCAUX, R10 VCCAUX, R12 VCCAUX, R14 VCCINT, R18 GND, T16 VBATT, U2 GND, U7 GND, U11 VCCAUX, U17 VFS, U21 GND, V4 GND, V6 VCCAUX, V10 GND, V14 GND, W7 GND, W16 GND, W19 GND

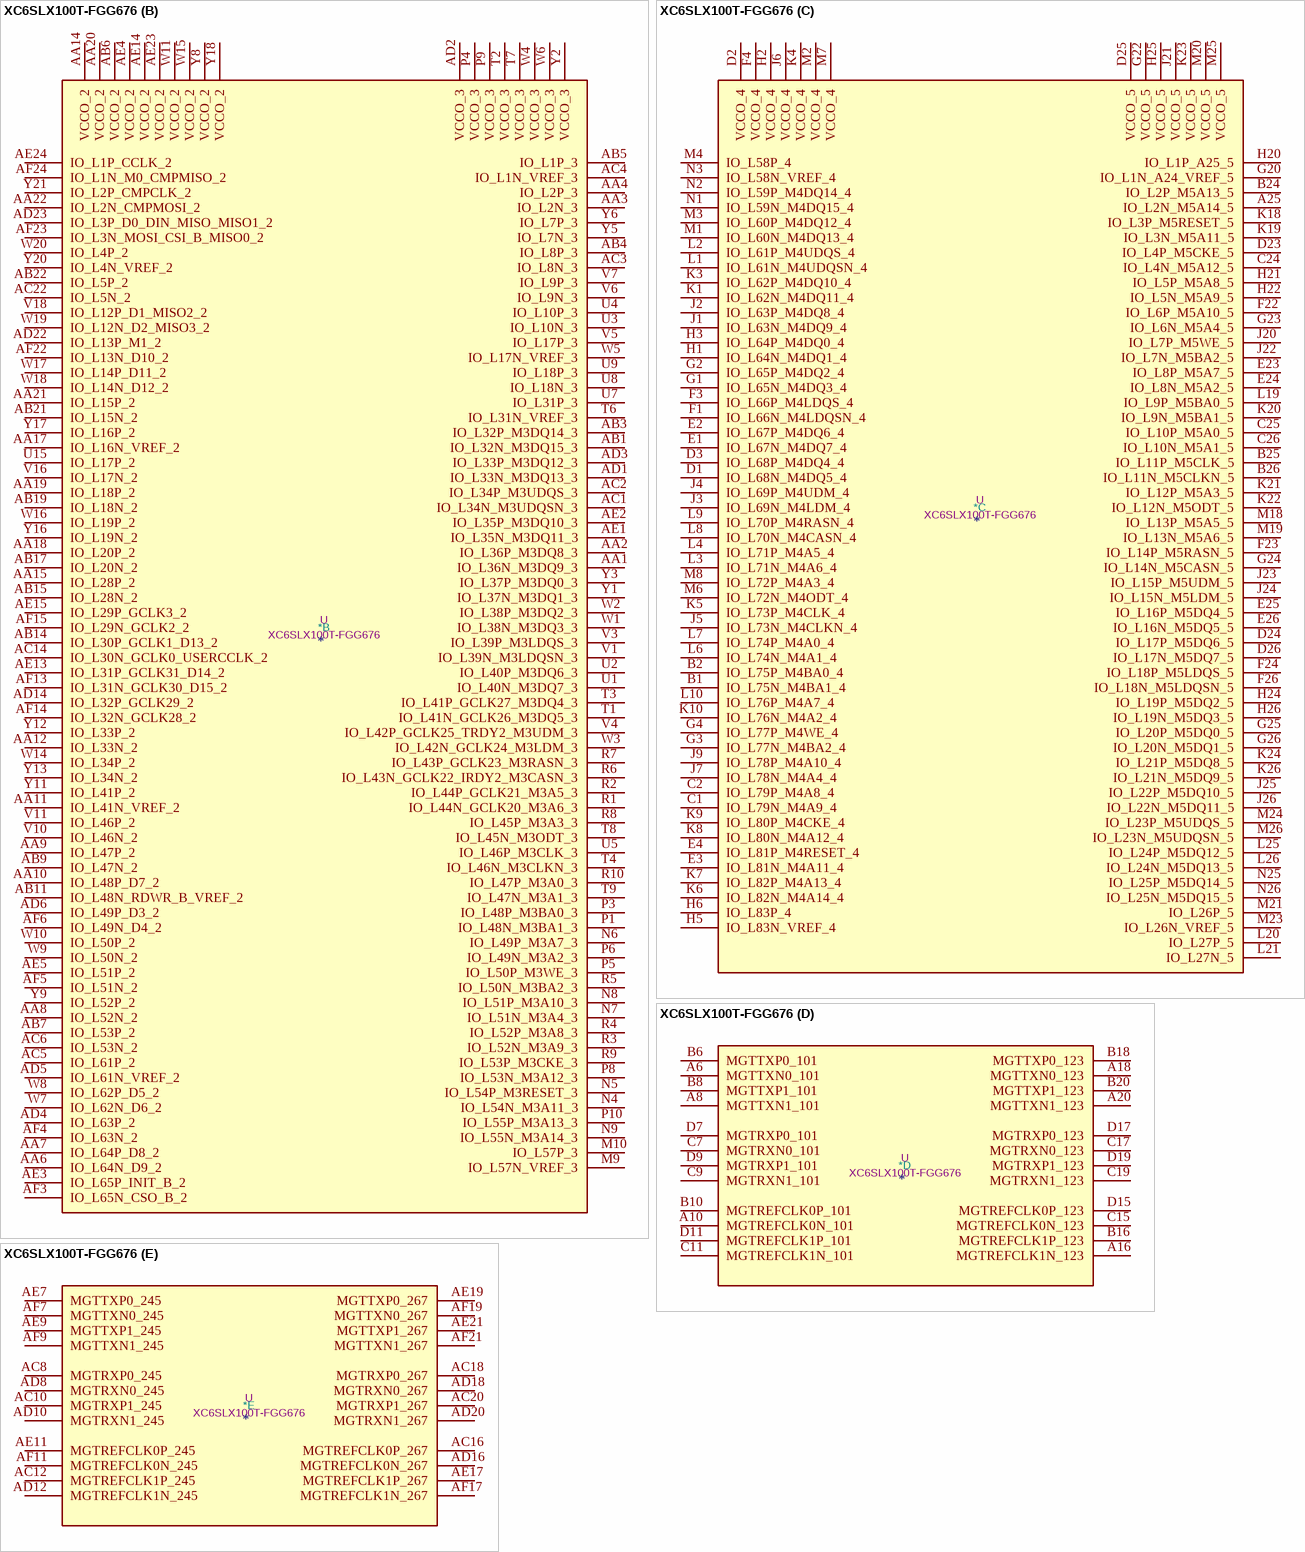
[diagram p45: symbol XC6SLX100T-FGG676]

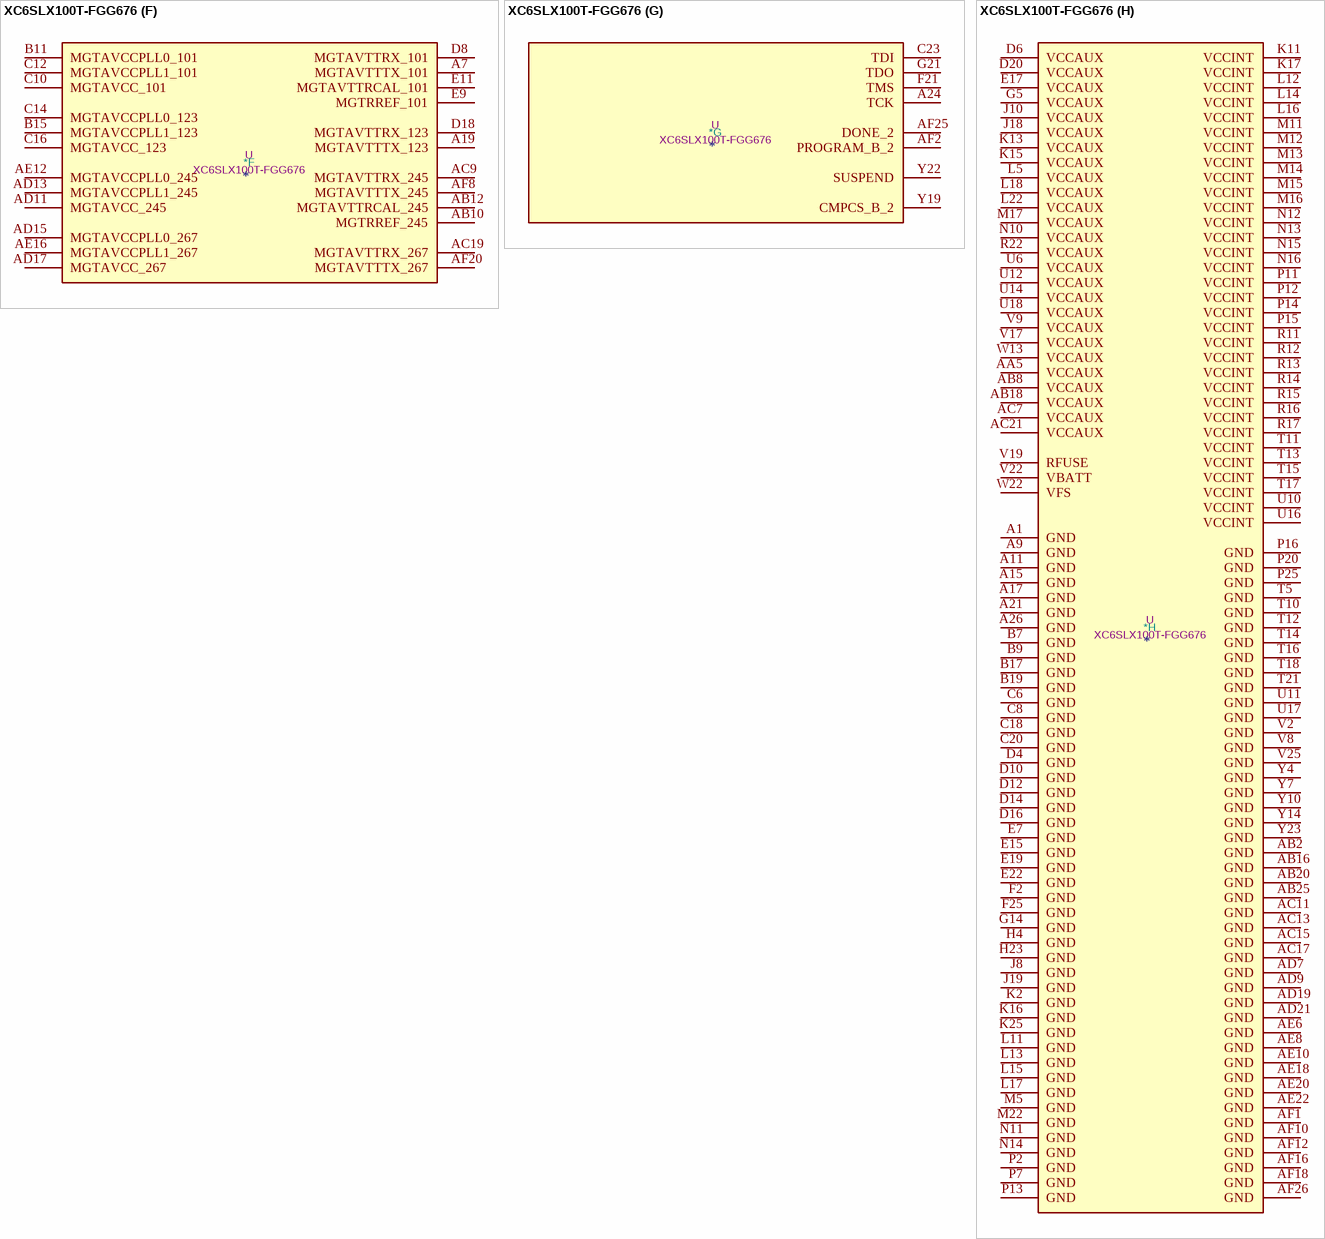
[diagram p46: symbol XC6SLX100T-FGG676]